# Altium schematic symbol library TTL_Library.SchLib: 480 symbols (part 2 of 4)
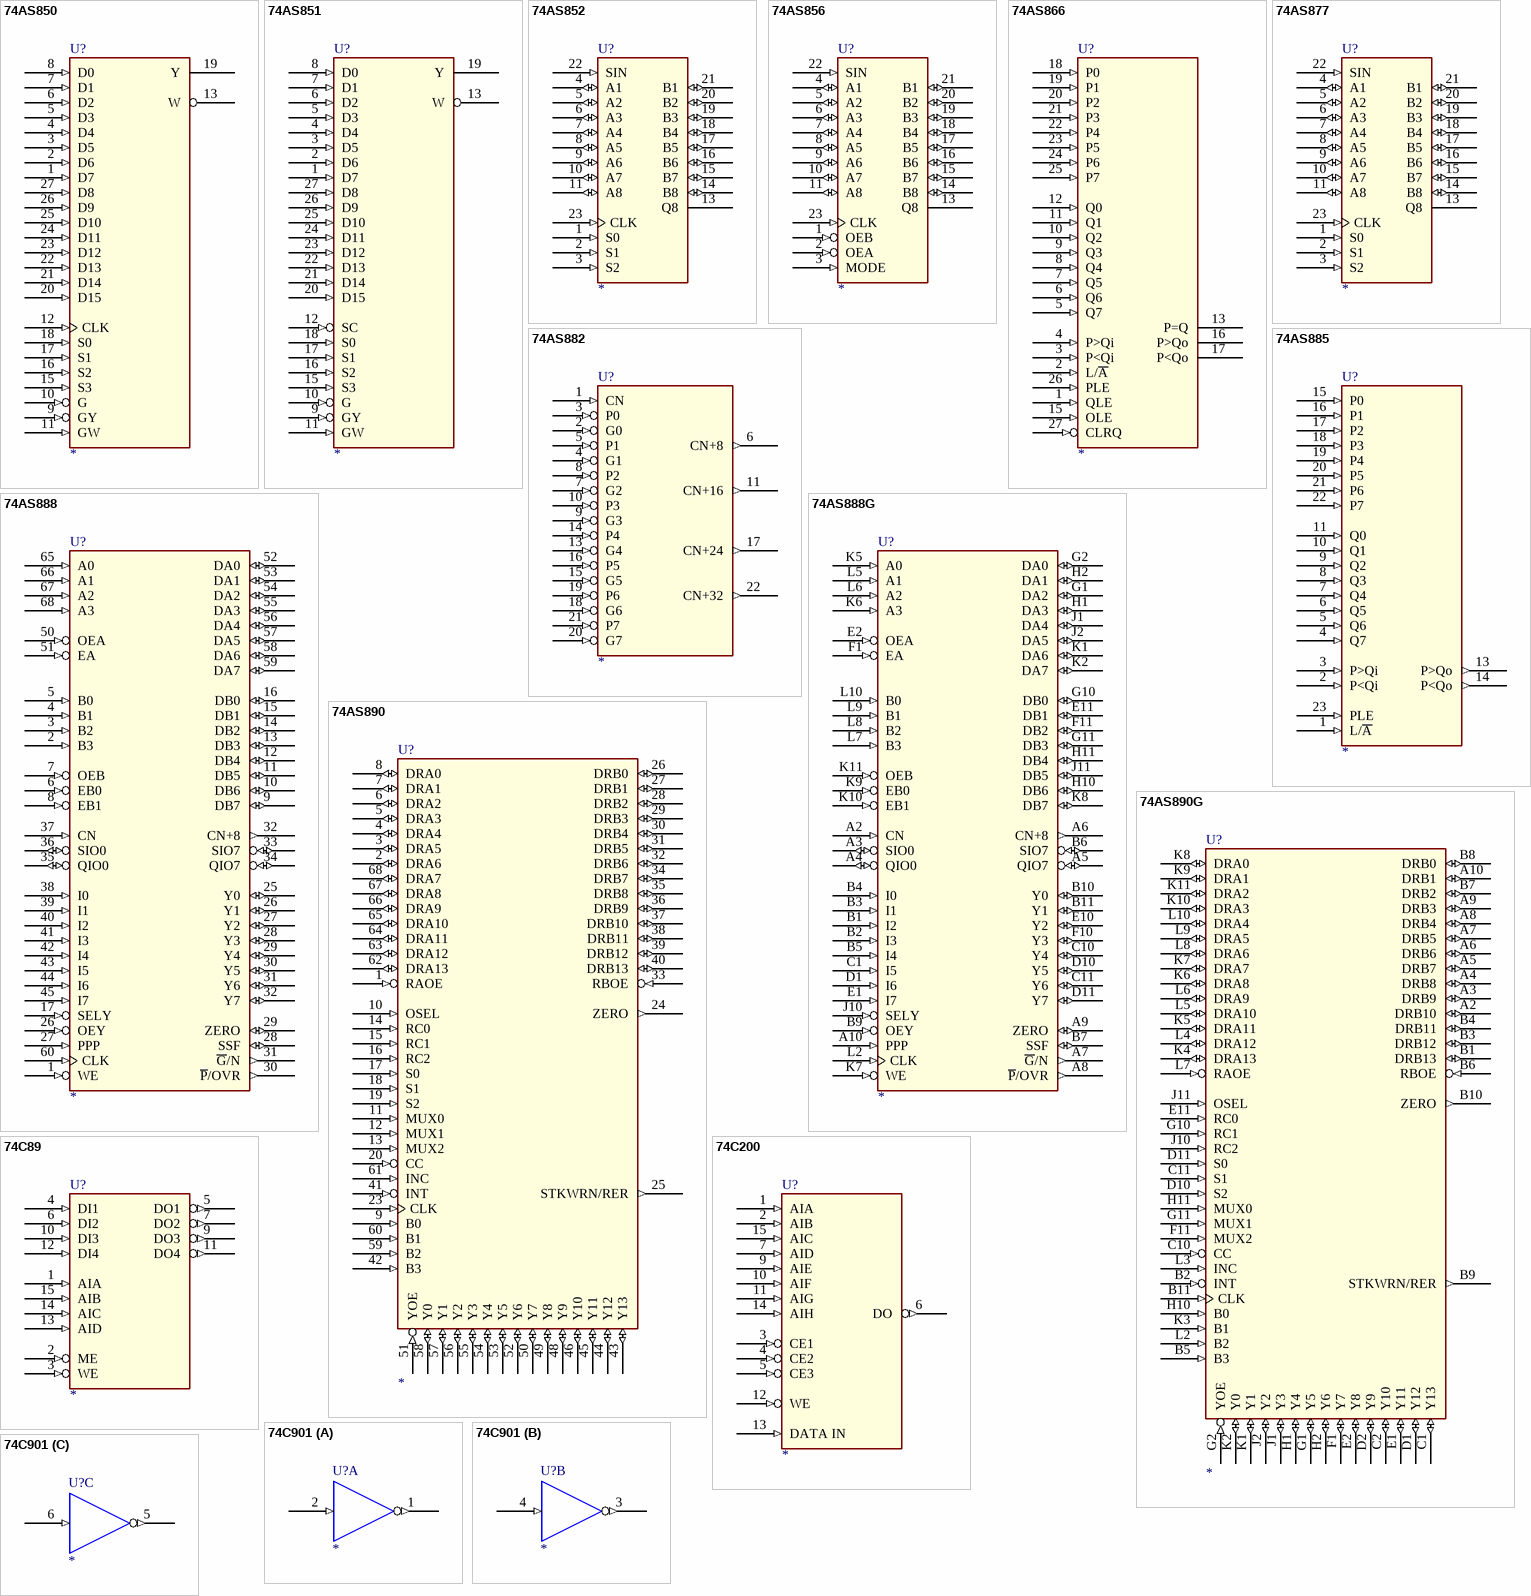
[diagram p26: symbols 74AS850 to 74C901]

## 74AS885
designator U?
pins: 1 L/~{A} (in), 2 P<Qi (in), 3 P>Qi (in), 4 Q7 (in), 5 Q6 (in), 6 Q5 (in), 7 Q4 (in), 8 Q3 (in), 9 Q2 (in), 10 Q1 (in), 11 Q0 (in), 12 GND (power) hidden to GND, 13 P>Qo (out), 14 P<Qo (out), 15 P0 (in), 16 P1 (in), 17 P2 (in), 18 P3 (in), 19 P4 (in), 20 P5 (in), 21 P6 (in), 22 P7 (in), 23 PLE (in), 24 VCC (power) hidden to VCC

## 74AS888
designator U?
pins: 1 WE (in), 2 B3 (in), 3 B2 (in), 4 B1 (in), 5 B0 (in), 6 EB0 (in), 7 OEB (in), 8 EB1 (in), 9 DB7 (io), 10 DB6 (io), 11 DB5 (io), 12 DB4 (io), 13 DB3 (io), 14 DB2 (io), 15 DB1 (io), 16 DB0 (io), 17 SELY (in), 25 Y0 (io), 26 OEY (in), 26 Y1 (io), 27 PPP (in), 27 Y2 (io), 28 Y3 (io), 28 SSF (io), 29 Y4 (io), 29 ZERO (io), 30 Y5 (io), 30 ~{P}/OVR (out), 31 Y6 (io), 31 ~{G}/N (out), 32 CN+8 (out), 32 Y7 (io), 33 SIO7 (io), 34 QIO7 (io), 35 QIO0 (io), 36 SIO0 (io), 37 CN (in), 38 I0 (in), 39 I1 (in), 40 I2 (in), 41 I3 (in), 42 I4 (in), 43 I5 (in), 43 GND (power) hidden to GND, 44 I6 (in), 45 I7 (in), 47 GND (power) hidden to GND, 48 VCC (power) hidden to VCC, 49 VCC (power) hidden to VCC, 50 OEA (in), 51 EA (in), 52 DA0 (io), 53 DA1 (io), 54 DA2 (io), 55 DA3 (io), 56 DA4 (io), 57 DA5 (io), 58 DA6 (io), 59 DA7 (io), 60 CLK (in), 65 A0 (in), 66 A1 (in), 67 A2 (in), 68 A3 (in)

## 74AS888G
designator U?
pins: A2 CN (in), A3 SIO0 (io), A4 QIO0 (io), A5 QIO7 (io), A6 CN+8 (out), A7 ~{G}/N (out), A8 ~{P}/OVR (out), A9 ZERO (io), A10 PPP (in), B1 I2 (in), B2 I3 (in), B3 I1 (in), B4 I0 (in), B5 I4 (in), B6 SIO7 (io), B7 SSF (io), B9 OEY (in), B10 Y0 (io), B11 Y1 (io), C1 I5 (in), C2 VCC (power) hidden to VCC, C10 Y4 (io), C11 Y6 (io), D1 I6 (in), D2 VCC (power) hidden to VCC, D10 Y5 (io), D11 Y7 (io), E1 I7 (in), E2 OEA (in), E10 Y2 (io), E11 DB1 (io), F1 EA (in), F2 GND (power) hidden to GND, F10 Y3 (io), F11 DB2 (io), G1 DA2 (io), G2 DA0 (io), G10 DB0 (io), G11 DB3 (io), H1 DA3 (io), H2 DA1 (io), H10 DB6 (io), H11 DB4 (io), J1 DA4 (io), J2 DA5 (io), J10 SELY (in), J11 DB5 (io), K1 DA6 (io), K2 DA7 (io), K5 A0 (in), K6 A3 (in), K7 WE (in), K8 DB7 (io), K9 EB0 (in), K10 EB1 (in), K11 OEB (in), L2 CLK (in), L5 A1 (in), L6 A2 (in), L7 B3 (in), L8 B2 (in), L9 B1 (in), L10 B0 (in)

## 74AS890
designator U?
pins: 1 RAOE (in), 2 DRA6 (io), 3 DRA5 (io), 4 DRA4 (io), 5 DRA3 (io), 6 DRA2 (io), 7 DRA1 (io), 8 DRA0 (io), 9 B0 (in), 10 OSEL (in), 11 MUX0 (in), 12 MUX1 (in), 13 MUX2 (in), 14 RC0 (in), 15 RC1 (in), 16 RC2 (in), 17 S0 (in), 18 S1 (in), 19 S2 (in), 20 CC (in), 21 VCC (power) hidden to VCC, 22 VCC (power) hidden to VCC, 23 CLK (in), 24 ZERO (out), 25 STKWRN/RER (out), 26 DRB0 (io), 27 DRB1 (io), 28 DRB2 (io), 29 DRB3 (io), 30 DRB4 (io), 31 DRB5 (io), 32 DRB6 (io), 33 RBOE (in), 34 DRB7 (io), 35 DRB8 (io), 36 DRB9 (io), 37 DRB10 (io), 38 DRB11 (io), 39 DRB12 (io), 40 DRB13 (io), 41 INT (in), 42 B3 (in), 43 Y13 (io), 44 Y12 (io), 45 Y11 (io), 46 Y10 (io), 47 GND (power) hidden to GND, 48 Y9 (io), 49 Y8 (io), 50 Y7 (io), 51 YOE (in), 52 Y6 (io), 53 Y5 (io), 54 Y4 (io), 55 Y3 (io), 56 Y2 (io), 57 Y1 (io), 58 Y0 (io), 59 B2 (in), 60 B1 (in), 61 INC (in), 62 DRA13 (io), 63 DRA12 (io), 64 DRA11 (io), 65 DRA10 (io), 66 DRA9 (io), 67 DRA8 (io), 68 DRA7 (io)

## 74AS890G
designator U?
pins: A2 DRB10 (io), A3 DRB9 (io), A4 DRB8 (io), A5 DRB7 (io), A6 DRB6 (io), A7 DRB5 (io), A8 DRB4 (io), A9 DRB3 (io), A10 DRB1 (io), B1 DRB13 (io), B2 INT (in), B3 DRB12 (io), B4 DRB11 (io), B5 B3 (in), B6 RBOE (in), B7 DRB2 (io), B8 DRB0 (io), B9 STKWRN/RER (out), B10 ZERO (out), B11 CLK (in), C1 Y13 (io), C2 Y10 (io), C10 CC (in), C11 S1 (in), D1 Y12 (io), D2 Y9 (io), D10 S2 (in), D11 S0 (in), E1 Y11 (io), E2 Y8 (io), E10 VCC (power) hidden to VCC, E11 RC0 (in), F1 Y7 (io), F2 GND (power) hidden to GND, F10 VCC (power) hidden to VCC, F11 MUX2 (in), G1 Y5 (io), G2 YOE (in), G10 RC1 (in), G11 MUX1 (in), H1 Y4 (io), H2 Y6 (io), H10 B0 (in), H11 MUX0 (in), J1 Y3 (io), J2 Y2 (io), J10 RC2 (in), J11 OSEL (in), K1 Y1 (io), K2 Y0 (io), K3 B1 (in), K4 DRA13 (io), K5 DRA11 (io), K6 DRA8 (io), K7 DRA7 (io), K8 DRA0 (io), K9 DRA1 (io), K10 DRA3 (io), K11 DRA2 (io), L2 B2 (in), L3 INC (in), L4 DRA12 (io), L5 DRA10 (io), L6 DRA9 (io), L7 RAOE (in), L8 DRA6 (io), L9 DRA5 (io), L10 DRA4 (io)

## 74C89
designator U?
pins: 1 AIA (in), 2 ME (in), 3 WE (in), 4 DI1 (in), 5 DO1 (out), 6 DI2 (in), 7 DO2 (out), 8 GND (power) hidden to GND, 9 DO3 (out), 10 DI3 (in), 11 DO4 (out), 12 DI4 (in), 13 AID (in), 14 AIC (in), 15 AIB (in), 16 VCC (power) hidden to VCC

## 74C200
designator U?
pins: 1 AIA (in), 2 AIB (in), 3 CE1 (in), 4 CE2 (in), 5 CE3 (in), 6 DO (out), 7 AID (in), 8 GND (power) hidden to GND, 9 AIE (in), 10 AIF (in), 11 AIG (in), 12 WE (in), 13 DATA IN (in), 14 AIH (in), 15 AIC (in), 16 VCC (power) hidden to VCC

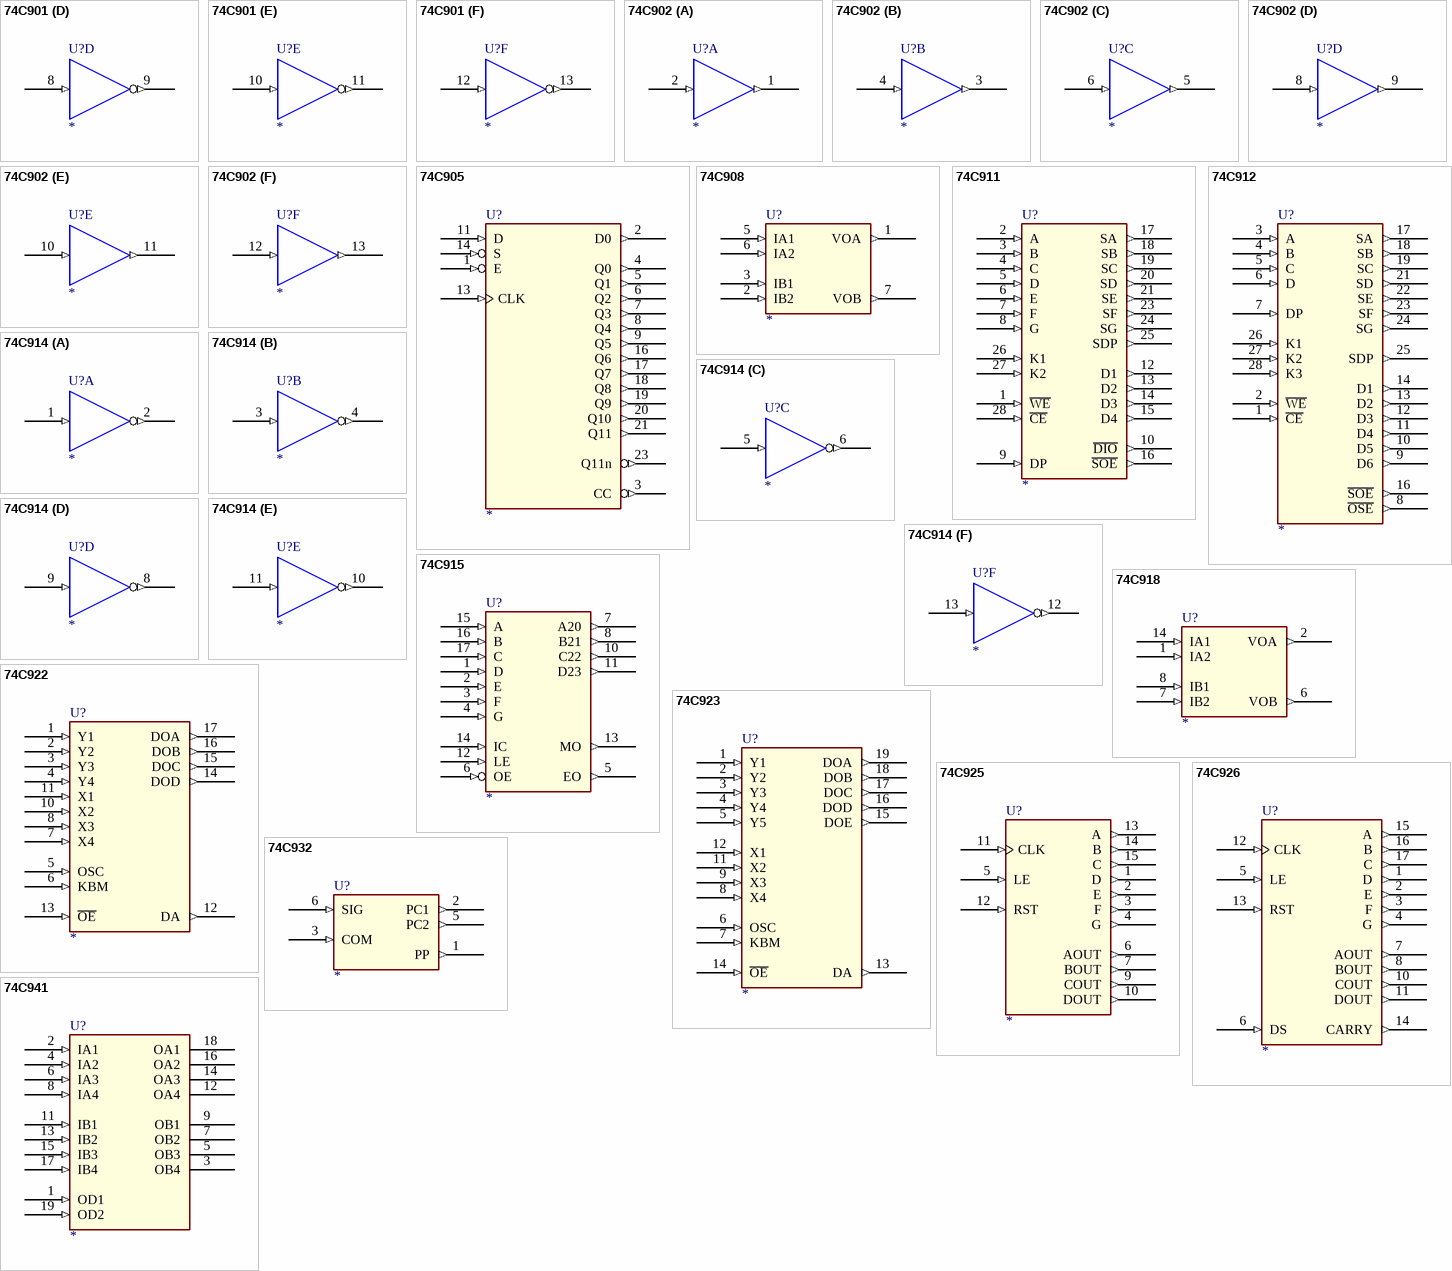
[diagram p8: symbols 74C901 to 74C941]

## 74C901
designator U?
part A pins: 1 O (out), 2 I (in), 7 GND (power) hidden to GND, 14 VCC (power) hidden to VCC
part B pins: 3 O (out), 4 I (in), 7 GND (power) hidden to GND, 14 VCC (power) hidden to VCC
part C pins: 5 O (out), 6 I (in), 7 GND (power) hidden to GND, 14 VCC (power) hidden to VCC
part D pins: 7 GND (power) hidden to GND, 8 I (in), 9 O (out), 14 VCC (power) hidden to VCC
part E pins: 7 GND (power) hidden to GND, 10 I (in), 11 O (out), 14 VCC (power) hidden to VCC
part F pins: 7 GND (power) hidden to GND, 12 I (in), 13 O (out), 14 VCC (power) hidden to VCC
1 alternate drawing of the same symbol

## 74C902
designator U?
part A pins: 1 O (out), 2 I (in), 7 GND (power) hidden to GND, 14 VCC (power) hidden to VCC
part B pins: 3 O (out), 4 I (in), 7 GND (power) hidden to GND, 14 VCC (power) hidden to VCC
part C pins: 5 O (out), 6 I (in), 7 GND (power) hidden to GND, 14 VCC (power) hidden to VCC
part D pins: 7 GND (power) hidden to GND, 8 I (in), 9 O (out), 14 VCC (power) hidden to VCC
part E pins: 7 GND (power) hidden to GND, 10 I (in), 11 O (out), 14 VCC (power) hidden to VCC
part F pins: 7 GND (power) hidden to GND, 12 I (in), 13 O (out), 14 VCC (power) hidden to VCC

## 74C905
designator U?
pins: 1 E (in), 2 D0 (out), 3 CC (out), 4 Q0 (out), 5 Q1 (out), 6 Q2 (out), 7 Q3 (out), 8 Q4 (out), 9 Q5 (out), 11 D (in), 12 GND (power) hidden to GND, 13 CLK (in), 14 S (in), 16 Q6 (out), 17 Q7 (out), 18 Q8 (out), 19 Q9 (out), 20 Q10 (out), 21 Q11 (out), 23 Q11n (out), 24 VCC (power) hidden to VCC

## 74C908
designator U?
pins: 1 VOA (out), 2 IB2 (in), 3 IB1 (in), 4 GND (power) hidden to GND, 5 IA1 (in), 6 IA2 (in), 7 VOB (out), 8 VCC (power) hidden to VCC

## 74C911
designator U?
pins: 1 ~{WE} (in), 2 A (in), 3 B (in), 4 C (in), 5 D (in), 6 E (in), 7 F (in), 8 G (in), 9 DP (in), 10 ~{DIO} (out), 11 GND (power) hidden to GND, 12 D1 (out), 13 D2 (out), 14 D3 (out), 15 D4 (out), 16 ~{SOE} (out), 17 SA (out), 18 SB (out), 19 SC (out), 20 SD (out), 21 SE (out), 22 VCC (power) hidden to VCC, 23 SF (out), 24 SG (out), 25 SDP (out), 26 K1 (in), 27 K2 (in), 28 ~{CE} (in)

## 74C912
designator U?
pins: 1 ~{CE} (in), 2 ~{WE} (in), 3 A (in), 4 B (in), 5 C (in), 6 D (in), 7 DP (in), 8 ~{OSE} (out), 9 D6 (out), 10 D5 (out), 11 D4 (out), 12 D3 (out), 13 D2 (out), 14 D1 (out), 15 GND (power) hidden to GND, 16 ~{SOE} (out), 17 SA (out), 18 SB (out), 19 SC (out), 20 VCC (power) hidden to VCC, 21 SD (out), 22 SE (out), 23 SF (out), 24 SG (out), 25 SDP (out), 26 K1 (in), 27 K2 (in), 28 K3 (in)

## 74C914
designator U?
part A pins: 1 I (in), 2 O (out), 7 GND (power) hidden to GND, 14 VCC (power) hidden to VCC
part B pins: 3 I (in), 4 O (out), 7 GND (power) hidden to GND, 14 VCC (power) hidden to VCC
part C pins: 5 I (in), 6 O (out), 7 GND (power) hidden to GND, 14 VCC (power) hidden to VCC
part D pins: 7 GND (power) hidden to GND, 8 O (out), 9 I (in), 14 VCC (power) hidden to VCC
part E pins: 7 GND (power) hidden to GND, 10 O (out), 11 I (in), 14 VCC (power) hidden to VCC
part F pins: 7 GND (power) hidden to GND, 12 O (out), 13 I (in), 14 VCC (power) hidden to VCC
1 alternate drawing of the same symbol

## 74C915
designator U?
pins: 1 D (in), 2 E (in), 3 F (in), 4 G (in), 5 EO (out), 6 OE (in), 7 A20 (out), 8 B21 (out), 9 GND (power) hidden to GND, 10 C22 (out), 11 D23 (out), 12 LE (in), 13 MO (out), 14 IC (in), 15 A (in), 16 B (in), 17 C (in), 18 VCC (power) hidden to VCC

## 74C918
designator U?
pins: 1 IA2 (in), 2 VOA (out), 6 VOB (out), 7 IB2 (in), 8 IB1 (in), 9 GND (power) hidden to GND, 12 VCC (power) hidden to VCC, 14 IA1 (in)

## 74C922
designator U?
pins: 1 Y1 (in), 2 Y2 (in), 3 Y3 (in), 4 Y4 (in), 5 OSC (in), 6 KBM (in), 7 X4 (in), 8 X3 (in), 9 GND (power) hidden to GND, 10 X2 (in), 11 X1 (in), 12 DA (out), 13 ~{OE} (in), 14 DOD (out), 15 DOC (out), 16 DOB (out), 17 DOA (out), 18 VCC (power) hidden to VCC

## 74C923
designator U?
pins: 1 Y1 (in), 2 Y2 (in), 3 Y3 (in), 4 Y4 (in), 5 Y5 (in), 6 OSC (in), 7 KBM (in), 8 X4 (in), 9 X3 (in), 10 GND (power) hidden to GND, 11 X2 (in), 12 X1 (in), 13 DA (out), 14 ~{OE} (in), 15 DOE (out), 16 DOD (out), 17 DOC (out), 18 DOB (out), 19 DOA (out), 20 VCC (power) hidden to VCC

## 74C925
designator U?
pins: 1 D (out), 2 E (out), 3 F (out), 4 G (out), 5 LE (in), 6 AOUT (out), 7 BOUT (out), 8 GND (power) hidden to GND, 9 COUT (out), 10 DOUT (out), 11 CLK (in), 12 RST (in), 13 A (out), 14 B (out), 15 C (out), 16 VCC (power) hidden to VCC

## 74C926
designator U?
pins: 1 D (out), 2 E (out), 3 F (out), 4 G (out), 5 LE (in), 6 DS (in), 7 AOUT (out), 8 BOUT (out), 9 GND (power) hidden to GND, 10 COUT (out), 11 DOUT (out), 12 CLK (in), 13 RST (in), 14 CARRY (out), 15 A (out), 16 B (out), 17 C (out), 18 VCC (power) hidden to VCC

## 74C932
designator U?
pins: 1 PP (out), 2 PC1 (out), 3 COM (in), 4 GND (power) hidden to GND, 5 PC2 (out), 6 SIG (in), 8 VCC (power) hidden to VCC

## 74C941
designator U?
pins: 1 OD1 (in), 2 IA1 (in), 3 OB4 (hiz), 4 IA2 (in), 5 OB3 (hiz), 6 IA3 (in), 7 OB2 (hiz), 8 IA4 (in), 9 OB1 (hiz), 10 GND (power) hidden to GND, 11 IB1 (in), 12 OA4 (hiz), 13 IB2 (in), 14 OA3 (hiz), 15 IB3 (in), 16 OA2 (hiz), 17 IB4 (in), 18 OA1 (hiz), 19 OD2 (in), 20 VCC (power) hidden to VCC

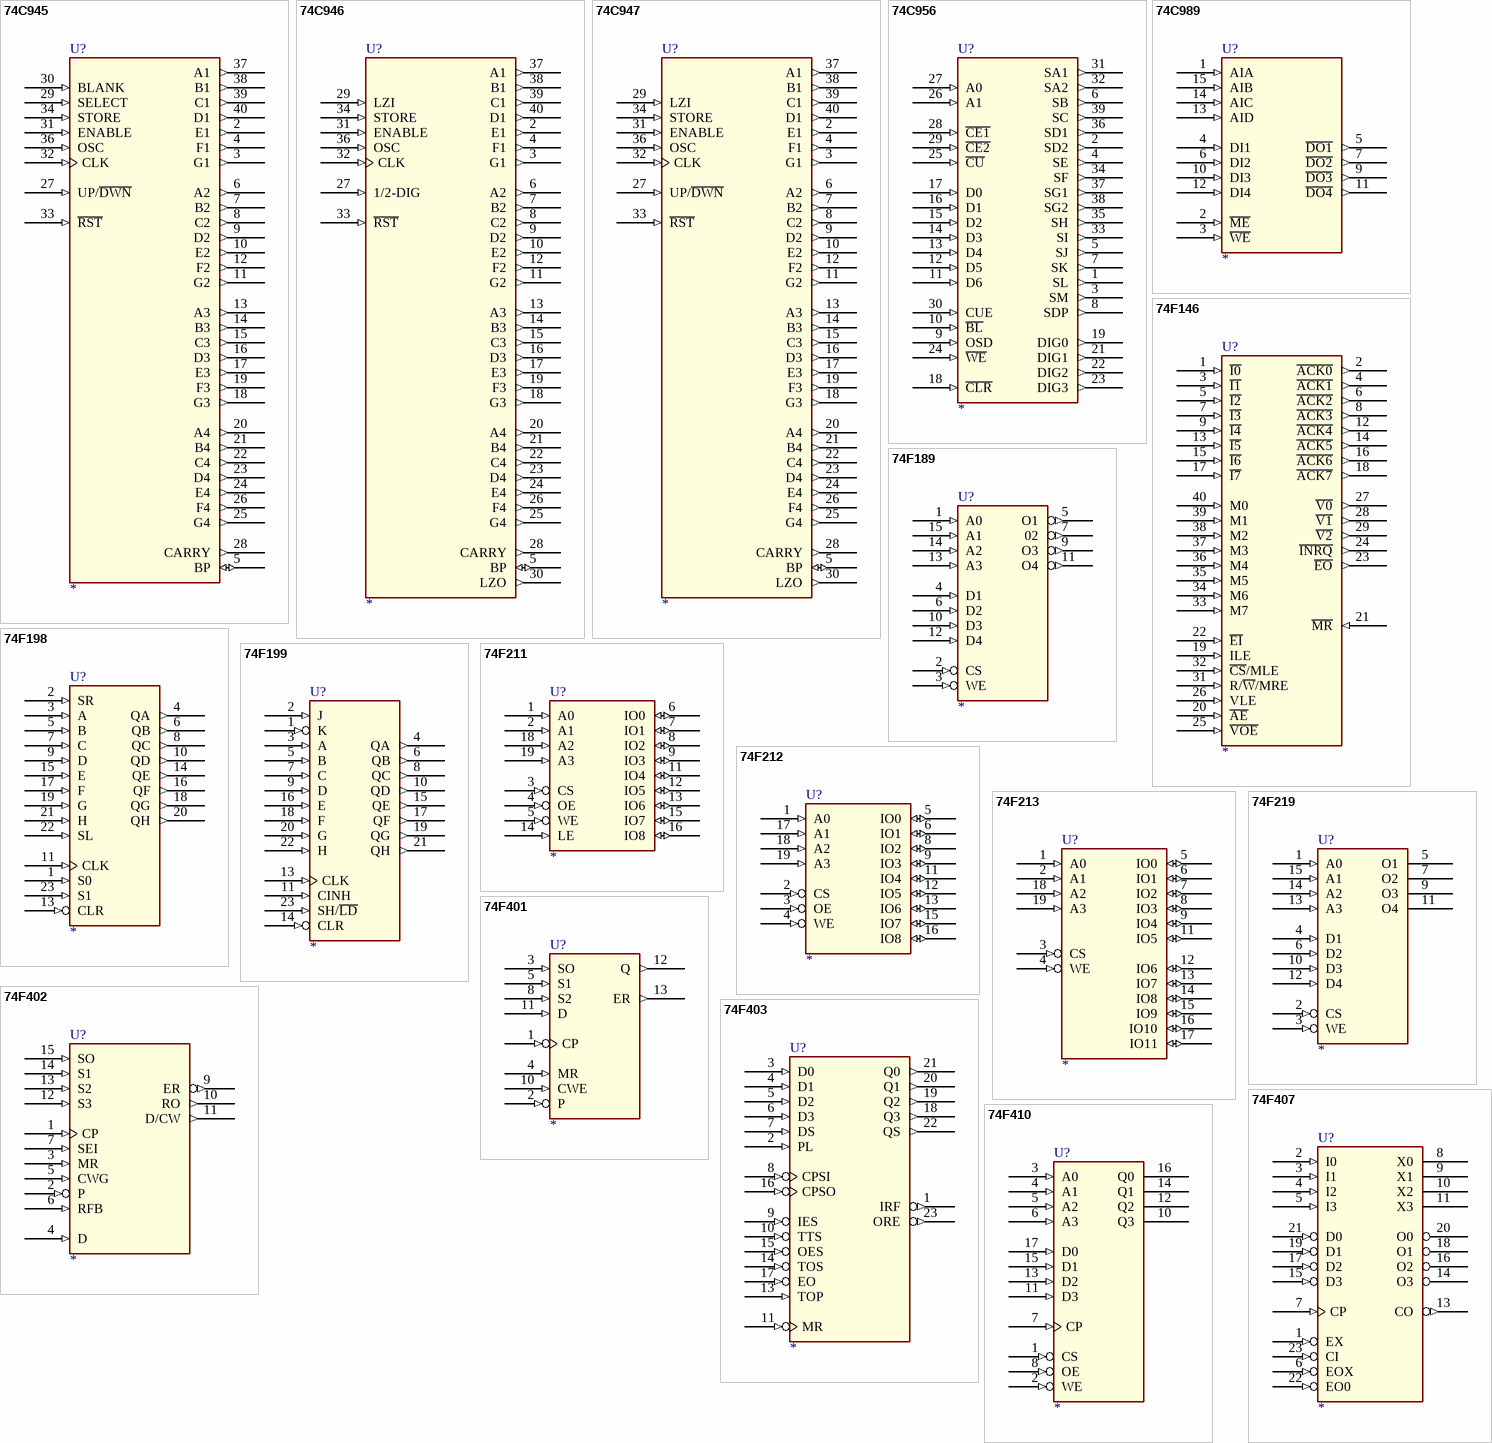
[diagram p9: symbols 74C945 to 74F410]

## 74C945
designator U?
pins: 1 VCC (power) hidden to VCC, 2 E1 (out), 3 G1 (out), 4 F1 (out), 5 BP (io), 6 A2 (out), 7 B2 (out), 8 C2 (out), 9 D2 (out), 10 E2 (out), 11 G2 (out), 12 F2 (out), 13 A3 (out), 14 B3 (out), 15 C3 (out), 16 D3 (out), 17 E3 (out), 18 G3 (out), 19 F3 (out), 20 A4 (out), 21 B4 (out), 22 C4 (out), 23 D4 (out), 24 E4 (out), 25 G4 (out), 26 F4 (out), 27 UP/~{DWN} (in), 28 CARRY (out), 29 SELECT (in), 30 BLANK (in), 31 ENABLE (in), 32 CLK (in), 33 ~{RST} (in), 34 STORE (in), 35 GND (power) hidden to GND, 36 OSC (in), 37 A1 (out), 38 B1 (out), 39 C1 (out), 40 D1 (out)

## 74C946
designator U?
pins: 1 VCC (power) hidden to VCC, 2 E1 (out), 3 G1 (out), 4 F1 (out), 5 BP (io), 6 A2 (out), 7 B2 (out), 8 C2 (out), 9 D2 (out), 10 E2 (out), 11 G2 (out), 12 F2 (out), 13 A3 (out), 14 B3 (out), 15 C3 (out), 16 D3 (out), 17 E3 (out), 18 G3 (out), 19 F3 (out), 20 A4 (out), 21 B4 (out), 22 C4 (out), 23 D4 (out), 24 E4 (out), 25 G4 (out), 26 F4 (out), 27 1/2-DIG (in), 28 CARRY (out), 29 LZI (in), 30 LZO (out), 31 ENABLE (in), 32 CLK (in), 33 ~{RST} (in), 34 STORE (in), 35 GND (power) hidden to GND, 36 OSC (in), 37 A1 (out), 38 B1 (out), 39 C1 (out), 40 D1 (out)

## 74C947
designator U?
pins: 1 VCC (power) hidden to VCC, 2 E1 (out), 3 G1 (out), 4 F1 (out), 5 BP (io), 6 A2 (out), 7 B2 (out), 8 C2 (out), 9 D2 (out), 10 E2 (out), 11 G2 (out), 12 F2 (out), 13 A3 (out), 14 B3 (out), 15 C3 (out), 16 D3 (out), 17 E3 (out), 18 G3 (out), 19 F3 (out), 20 A4 (out), 21 B4 (out), 22 C4 (out), 23 D4 (out), 24 E4 (out), 25 G4 (out), 26 F4 (out), 27 UP/~{DWN} (in), 28 CARRY (out), 29 LZI (in), 30 LZO (out), 31 ENABLE (in), 32 CLK (in), 33 ~{RST} (in), 34 STORE (in), 35 GND (power) hidden to GND, 36 OSC (in), 37 A1 (out), 38 B1 (out), 39 C1 (out), 40 D1 (out)

## 74C956
designator U?
pins: 1 SL (out), 2 SD2 (out), 3 SM (out), 4 SE (out), 5 SJ (out), 6 SB (out), 7 SK (out), 8 SDP (out), 9 OSD (in), 10 ~{BL} (in), 11 D6 (in), 12 D5 (in), 13 D4 (in), 14 D3 (in), 15 D2 (in), 16 D1 (in), 17 D0 (in), 18 ~{CLR} (in), 19 DIG0 (out), 20 VSS (power) hidden to VSS, 21 DIG1 (out), 22 DIG2 (out), 23 DIG3 (out), 24 ~{WE} (in), 25 ~{CU} (in), 26 A1 (in), 27 A0 (in), 28 ~{CE1} (in), 29 ~{CE2} (in), 30 CUE (in), 31 SA1 (out), 32 SA2 (out), 33 SI (out), 34 SF (out), 35 SH (out), 36 SD1 (out), 37 SG1 (out), 38 SG2 (out), 39 SC (out), 40 VCC (power) hidden to VCC

## 74C989
designator U?
pins: 1 AIA (in), 2 ~{ME} (in), 3 ~{WE} (in), 4 DI1 (in), 5 ~{DO1} (out), 6 DI2 (in), 7 ~{DO2} (out), 8 GND (power) hidden to GND, 9 ~{DO3} (out), 10 DI3 (in), 11 ~{DO4} (out), 12 DI4 (in), 13 AID (in), 14 AIC (in), 15 AIB (in), 16 VCC (power) hidden to VCC

## 74F146
designator U?
pins: 1 ~{I0} (in), 2 ~{ACK0} (out), 3 ~{I1} (in), 4 ~{ACK1} (out), 5 ~{I2} (in), 6 ~{ACK2} (out), 7 ~{I3} (in), 8 ~{ACK3} (out), 9 ~{I4} (in), 10 VCC (power) hidden to VCC, 11 GND (power) hidden to GND, 12 ~{ACK4} (out), 13 ~{I5} (in), 14 ~{ACK5} (out), 15 ~{I6} (in), 16 ~{ACK6} (out), 17 ~{I7} (in), 18 ~{ACK7} (out), 19 ILE (in), 20 ~{AE} (in), 21 ~{MR} (in), 22 ~{EI} (in), 23 ~{EO} (out), 24 ~{INRQ} (out), 25 ~{VOE} (in), 26 VLE (in), 27 ~{V0} (out), 28 ~{V1} (out), 29 ~{V2} (out), 30 GND (power) hidden to GND, 31 R/~{W}/MRE (in), 32 ~{CS}/MLE (in), 33 M7 (in), 34 M6 (in), 35 M5 (in), 36 M4 (in), 37 M3 (in), 38 M2 (in), 39 M1 (in), 40 M0 (in)

## 74F189
designator U?
pins: 1 A0 (in), 2 CS (in), 3 WE (in), 4 D1 (in), 5 O1 (out), 6 D2 (in), 7 02 (out), 8 GND (power) hidden to GND, 9 O3 (out), 10 D3 (in), 11 O4 (out), 12 D4 (in), 13 A3 (in), 14 A2 (in), 15 A1 (in), 16 VCC (power) hidden to VCC

## 74F198
designator U?
pins: 1 S0 (in), 2 SR (in), 3 A (in), 4 QA (out), 5 B (in), 6 QB (out), 7 C (in), 8 QC (out), 9 D (in), 10 QD (out), 11 CLK (in), 12 GND (power) hidden to GND, 13 CLR (in), 14 QE (out), 15 E (in), 16 QF (out), 17 F (in), 18 QG (out), 19 G (in), 20 QH (out), 21 H (in), 22 SL (in), 23 S1 (in), 24 VCC (power) hidden to VCC

## 74F199
designator U?
pins: 1 K (in), 2 J (in), 3 A (in), 4 QA (out), 5 B (in), 6 QB (out), 7 C (in), 8 QC (out), 9 D (in), 10 QD (out), 11 CINH (in), 12 GND (power) hidden to GND, 13 CLK (in), 14 CLR (in), 15 QE (out), 16 E (in), 17 QF (out), 18 F (in), 19 QG (out), 20 G (in), 21 QH (out), 22 H (in), 23 SH/~{LD} (in), 24 VCC (power) hidden to VCC

## 74F211
designator U?
pins: 1 A0 (in), 2 A1 (in), 3 CS (in), 4 OE (in), 5 WE (in), 6 IO0 (io), 7 IO1 (io), 8 IO2 (io), 9 IO3 (io), 10 GND (power) hidden to GND, 11 IO4 (io), 12 IO5 (io), 13 IO6 (io), 14 LE (in), 15 IO7 (io), 16 IO8 (io), 18 A2 (in), 19 A3 (in), 20 VCC (power) hidden to VCC

## 74F212
designator U?
pins: 1 A0 (in), 2 CS (in), 3 OE (in), 4 WE (in), 5 IO0 (io), 6 IO1 (io), 8 IO2 (io), 9 IO3 (io), 10 GND (power) hidden to GND, 11 IO4 (io), 12 IO5 (io), 13 IO6 (io), 15 IO7 (io), 16 IO8 (io), 17 A1 (in), 18 A2 (in), 19 A3 (in), 20 VCC (power) hidden to VCC

## 74F213
designator U?
pins: 1 A0 (in), 2 A1 (in), 3 CS (in), 4 WE (in), 5 IO0 (io), 6 IO1 (io), 7 IO2 (io), 8 IO3 (io), 9 IO4 (io), 10 GND (power) hidden to GND, 11 IO5 (io), 12 IO6 (io), 13 IO7 (io), 14 IO8 (io), 15 IO9 (io), 16 IO10 (io), 17 IO11 (io), 18 A2 (in), 19 A3 (in), 20 VCC (power) hidden to VCC

## 74F219
designator U?
pins: 1 A0 (in), 2 CS (in), 3 WE (in), 4 D1 (in), 5 O1 (hiz), 6 D2 (in), 7 O2 (hiz), 8 GND (power) hidden to GND, 9 O3 (hiz), 10 D3 (in), 11 O4 (hiz), 12 D4 (in), 13 A3 (in), 14 A2 (in), 15 A1 (in), 16 VCC (power) hidden to VCC

## 74F401
designator U?
pins: 1 CP (in), 2 P (in), 3 SO (in), 4 MR (in), 5 S1 (in), 7 GND (power) hidden to GND, 8 S2 (in), 10 CWE (in), 11 D (in), 12 Q (out), 13 ER (out), 14 VCC (power) hidden to VCC

## 74F402
designator U?
pins: 1 CP (in), 2 P (in), 3 MR (in), 4 D (in), 5 CWG (in), 6 RFB (in), 7 SEI (in), 8 GND (power) hidden to GND, 9 ER (out), 10 RO (out), 11 D/CW (out), 12 S3 (in), 13 S2 (in), 14 S1 (in), 15 SO (in), 16 VCC (power) hidden to VCC

## 74F403
designator U?
pins: 1 IRF (out), 2 PL (in), 3 D0 (in), 4 D1 (in), 5 D2 (in), 6 D3 (in), 7 DS (in), 8 CPSI (in), 9 IES (in), 10 TTS (in), 11 MR (in), 12 GND (power) hidden to GND, 13 TOP (in), 14 TOS (in), 15 OES (in), 16 CPSO (in), 17 EO (in), 18 Q3 (out), 19 Q2 (out), 20 Q1 (out), 21 Q0 (out), 22 QS (out), 23 ORE (out), 24 VCC (power) hidden to VCC

## 74F407
designator U?
pins: 1 EX (in), 2 I0 (in), 3 I1 (in), 4 I2 (in), 5 I3 (in), 6 EOX (in), 7 CP (in), 8 X0 (hiz), 9 X1 (hiz), 10 X2 (hiz), 11 X3 (hiz), 12 GND (power) hidden to GND, 13 CO (out), 14 O3 (hiz), 15 D3 (in), 16 O2 (hiz), 17 D2 (in), 18 O1 (hiz), 19 D1 (in), 20 O0 (hiz), 21 D0 (in), 22 EO0 (in), 23 CI (in), 24 VCC (power) hidden to VCC

## 74F410
designator U?
pins: 1 CS (in), 2 WE (in), 3 A0 (in), 4 A1 (in), 5 A2 (in), 6 A3 (in), 7 CP (in), 8 OE (in), 9 GND (power) hidden to GND, 10 Q3 (hiz), 11 D3 (in), 12 Q2 (hiz), 13 D2 (in), 14 Q1 (hiz), 15 D1 (in), 16 Q0 (hiz), 17 D0 (in), 18 VCC (power) hidden to VCC

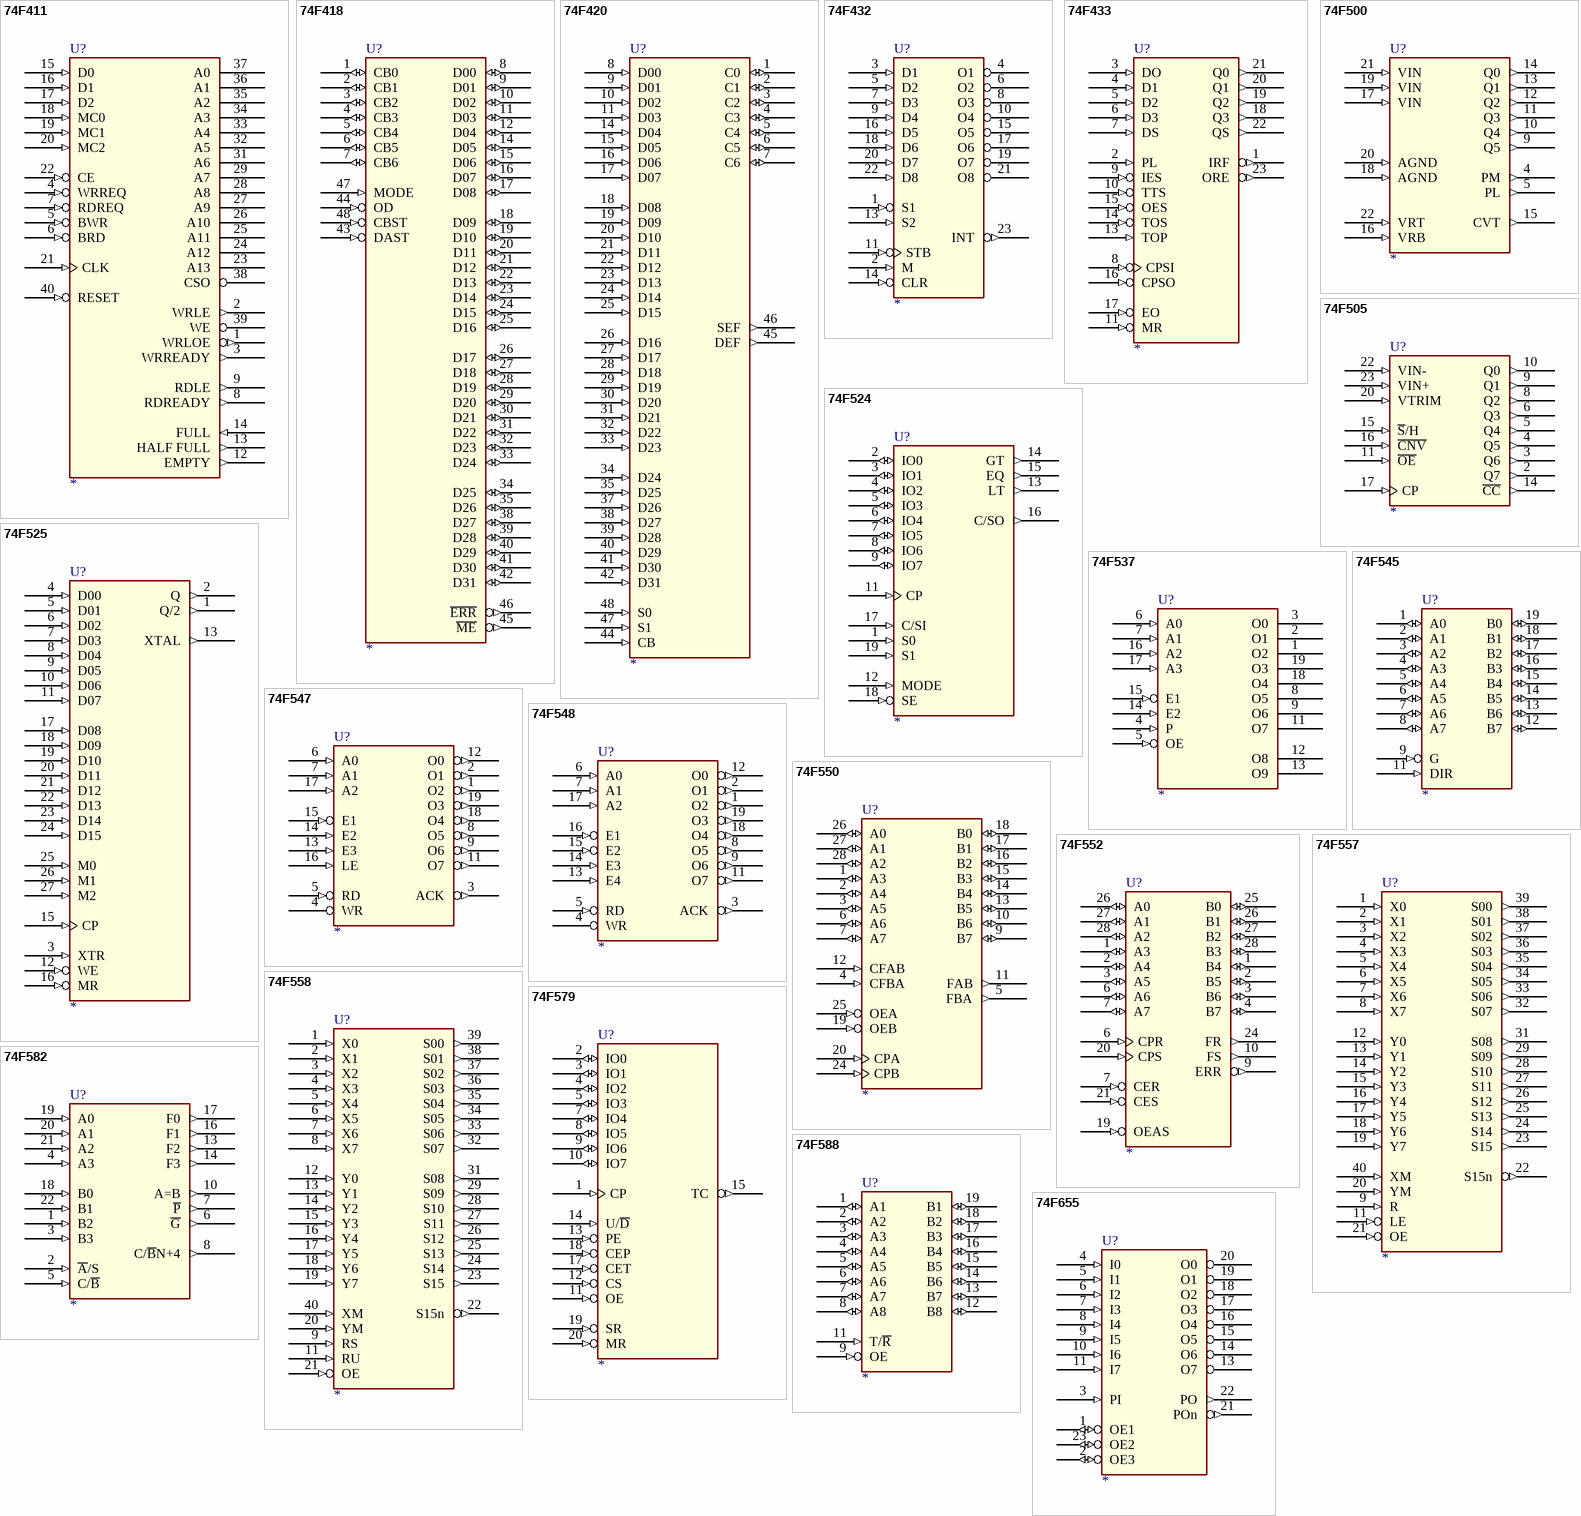
[diagram p10: symbols 74F411 to 74F655]

## 74F411
designator U?
pins: 1 WRLOE (out), 2 WRLE (out), 3 WRREADY (out), 4 WRREQ (in), 5 BWR (in), 6 BRD (in), 7 RDREQ (in), 8 RDREADY (out), 9 RDLE (out), 10 VCC (power) hidden to VCC, 11 GND (power) hidden to GND, 12 EMPTY (out), 13 HALF FULL (out), 14 FULL (in), 15 D0 (in), 16 D1 (in), 17 D2 (in), 18 MC0 (in), 19 MC1 (in), 20 MC2 (in), 21 CLK (in), 22 CE (in), 23 A13 (hiz), 24 A12 (hiz), 25 A11 (hiz), 26 A10 (hiz), 27 A9 (hiz), 28 A8 (hiz), 29 A7 (hiz), 30 GND (power) hidden to GND, 31 A6 (hiz), 32 A5 (hiz), 33 A4 (hiz), 34 A3 (hiz), 35 A2 (hiz), 36 A1 (hiz), 37 A0 (hiz), 38 CSO (hiz), 39 WE (hiz), 40 RESET (in)

## 74F418
designator U?
pins: 1 CB0 (io), 2 CB1 (io), 3 CB2 (io), 4 CB3 (io), 5 CB4 (io), 6 CB5 (io), 7 CB6 (io), 8 D00 (io), 9 D01 (io), 10 D02 (io), 11 D03 (io), 12 D04 (io), 13 GND (power) hidden to GND, 14 D05 (io), 15 D06 (io), 16 D07 (io), 17 D08 (io), 18 D09 (io), 19 D10 (io), 20 D11 (io), 21 D12 (io), 22 D13 (io), 23 D14 (io), 24 D15 (io), 25 D16 (io), 26 D17 (io), 27 D18 (io), 28 D19 (io), 29 D20 (io), 30 D21 (io), 31 D22 (io), 32 D23 (io), 33 D24 (io), 34 D25 (io), 35 D26 (io), 36 VCC (power) hidden to VCC, 37 GND (power) hidden to GND, 38 D27 (io), 39 D28 (io), 40 D29 (io), 41 D30 (io), 42 D31 (io), 43 DAST (in), 44 OD (in), 45 ~{ME} (out), 46 ~{ERR} (out), 47 MODE (in), 48 CBST (in)

## 74F420
designator U?
pins: 1 C0 (io), 2 C1 (io), 3 C2 (io), 4 C3 (io), 5 C4 (io), 6 C5 (io), 7 C6 (io), 8 D00 (in), 9 D01 (in), 10 D02 (in), 11 D03 (in), 12 VCC (power) hidden to VCC, 13 GND (power) hidden to GND, 14 D04 (in), 15 D05 (in), 16 D06 (in), 17 D07 (in), 18 D08 (in), 19 D09 (in), 20 D10 (in), 21 D11 (in), 22 D12 (in), 23 D13 (in), 24 D14 (in), 25 D15 (in), 26 D16 (in), 27 D17 (in), 28 D18 (in), 29 D19 (in), 30 D20 (in), 31 D21 (in), 32 D22 (in), 33 D23 (in), 34 D24 (in), 35 D25 (in), 36 GND (power) hidden to GND, 37 D26 (in), 38 D27 (in), 39 D28 (in), 40 D29 (in), 41 D30 (in), 42 D31 (in), 44 CB (in), 45 DEF (out), 46 SEF (out), 47 S1 (in), 48 S0 (in)

## 74F432
designator U?
pins: 1 S1 (in), 2 M (in), 3 D1 (in), 4 O1 (hiz), 5 D2 (in), 6 O2 (hiz), 7 D3 (in), 8 O3 (hiz), 9 D4 (in), 10 O4 (hiz), 11 STB (in), 12 GND (power) hidden to GND, 13 S2 (in), 14 CLR (in), 15 O5 (hiz), 16 D5 (in), 17 O6 (hiz), 18 D6 (in), 19 O7 (hiz), 20 D7 (in), 21 O8 (hiz), 22 D8 (in), 23 INT (out), 24 VCC (power) hidden to VCC

## 74F433
designator U?
pins: 1 IRF (out), 2 PL (in), 3 DO (in), 4 D1 (in), 5 D2 (in), 6 D3 (in), 7 DS (in), 8 CPSI (in), 9 IES (in), 10 TTS (in), 11 MR (in), 12 GND (power) hidden to GND, 13 TOP (in), 14 TOS (in), 15 OES (in), 16 CPSO (in), 17 EO (in), 18 Q3 (out), 19 Q2 (out), 20 Q1 (out), 21 Q0 (out), 22 QS (out), 23 ORE (out), 24 VCC (power) hidden to VCC

## 74F500
designator U?
pins: 1 VEE (power) hidden to VEE, 4 PM (out), 5 PL (out), 6 VEE (power) hidden to VEE, 7 VCC (power) hidden to VCC, 8 GND (power) hidden to GND, 9 Q5 (out), 10 Q4 (out), 11 Q3 (out), 12 Q2 (out), 13 Q1 (out), 14 Q0 (out), 15 CVT (out), 16 VRB (in), 17 VIN (in), 18 AGND (in), 19 VIN (in), 20 AGND (in), 21 VIN (in), 22 VRT (in)

## 74F505
designator U?
pins: 1 DGND (power) hidden to DGND, 2 Q7 (out), 3 Q6 (out), 4 Q5 (out), 5 Q4 (out), 6 Q3 (out), 7 DGND (power) hidden to DGND, 8 Q2 (out), 9 Q1 (out), 10 Q0 (out), 11 ~{OE} (in), 12 DGND (power) hidden to DGND, 13 DVCC (power) hidden to DVCC, 14 ~{CC} (out), 15 ~{S}/H (in), 16 ~{CNV} (in), 17 CP (in), 18 AVEE (power) hidden to AVEE, 19 AVEE (power) hidden to AVEE, 20 VTRIM (in), 21 AGND (power) hidden to AGND, 22 VIN- (in), 23 VIN+ (in), 24 AVCC (power) hidden to AVCC

## 74F524
designator U?
pins: 1 S0 (in), 2 IO0 (io), 3 IO1 (io), 4 IO2 (io), 5 IO3 (io), 6 IO4 (io), 7 IO5 (io), 8 IO6 (io), 9 IO7 (io), 10 GND (power) hidden to GND, 11 CP (in), 12 MODE (in), 13 LT (out), 14 GT (out), 15 EQ (out), 16 C/SO (out), 17 C/SI (in), 18 SE (in), 19 S1 (in), 20 VCC (power) hidden to VCC

## 74F525
designator U?
pins: 1 Q/2 (out), 2 Q (out), 3 XTR (in), 4 D00 (in), 5 D01 (in), 6 D02 (in), 7 D03 (in), 8 D04 (in), 9 D05 (in), 10 D06 (in), 11 D07 (in), 12 WE (in), 12 VCC (power) hidden to VCC, 13 XTAL (out), 14 GND (power) hidden to GND, 15 CP (in), 16 MR (in), 17 D08 (in), 18 D09 (in), 19 D10 (in), 20 D11 (in), 21 D12 (in), 22 D13 (in), 23 D14 (in), 24 D15 (in), 25 M0 (in), 26 M1 (in), 27 M2 (in)

## 74F537
designator U?
pins: 1 O2 (hiz), 2 O1 (hiz), 3 O0 (hiz), 4 P (in), 5 OE (in), 6 A0 (in), 7 A1 (in), 8 O5 (hiz), 9 O6 (hiz), 10 GND (power) hidden to GND, 11 O7 (hiz), 12 O8 (hiz), 13 O9 (hiz), 14 E2 (in), 15 E1 (in), 16 A2 (in), 17 A3 (in), 18 O4 (hiz), 19 O3 (hiz), 20 VCC (power) hidden to VCC

## 74F545
designator U?
pins: 1 A0 (io), 2 A1 (io), 3 A2 (io), 4 A3 (io), 5 A4 (io), 6 A5 (io), 7 A6 (io), 8 A7 (io), 9 G (in), 10 GND (power) hidden to GND, 11 DIR (in), 12 B7 (io), 13 B6 (io), 14 B5 (io), 15 B4 (io), 16 B3 (io), 17 B2 (io), 18 B1 (io), 19 B0 (io), 20 VCC (power) hidden to VCC

## 74F547
designator U?
pins: 1 O2 (out), 2 O1 (out), 3 ACK (out), 4 WR (hiz), 5 RD (in), 6 A0 (in), 7 A1 (in), 8 O5 (out), 9 O6 (out), 10 GND (power) hidden to GND, 11 O7 (out), 12 O0 (out), 13 E3 (in), 14 E2 (in), 15 E1 (in), 16 LE (in), 17 A2 (in), 18 O4 (out), 19 O3 (out), 20 VCC (power) hidden to VCC

## 74F548
designator U?
pins: 1 O2 (out), 2 O1 (out), 3 ACK (out), 4 WR (hiz), 5 RD (in), 6 A0 (in), 7 A1 (in), 8 O5 (out), 9 O6 (out), 10 GND (power) hidden to GND, 11 O7 (out), 12 O0 (out), 13 E4 (in), 14 E3 (in), 15 E2 (in), 16 E1 (in), 17 A2 (in), 18 O4 (out), 19 O3 (out), 20 VCC (power) hidden to VCC

## 74F550
designator U?
pins: 1 A3 (io), 2 A4 (io), 3 A5 (io), 4 CFBA (in), 5 FBA (out), 6 A6 (io), 7 A7 (io), 8 VCC (power) hidden to VCC, 9 B7 (io), 10 B6 (io), 11 FAB (out), 12 CFAB (in), 13 B5 (io), 14 B4 (io), 15 B3 (io), 16 B2 (io), 17 B1 (io), 18 B0 (io), 19 OEB (in), 20 CPA (in), 22 GND (power) hidden to GND, 24 CPB (in), 25 OEA (in), 26 A0 (io), 27 A1 (io), 28 A2 (io)

## 74F552
designator U?
pins: 1 A3 (io), 1 B4 (io), 2 A4 (io), 2 B5 (io), 3 A5 (io), 3 B6 (io), 4 B7 (io), 6 A6 (io), 6 CPR (in), 7 A7 (io), 7 CER (in), 8 VCC (power) hidden to VCC, 9 ERR (out), 10 FS (out), 19 OEAS (in), 20 CPS (in), 21 CES (in), 22 GND (power) hidden to GND, 24 FR (out), 25 B0 (io), 26 A0 (io), 26 B1 (io), 27 A1 (io), 27 B2 (io), 28 A2 (io), 28 B3 (io)

## 74F557
designator U?
pins: 1 X0 (in), 2 X1 (in), 3 X2 (in), 4 X3 (in), 5 X4 (in), 6 X5 (in), 7 X6 (in), 8 X7 (in), 9 R (in), 10 VCC (power) hidden to VCC, 11 LE (in), 12 Y0 (in), 13 Y1 (in), 14 Y2 (in), 15 Y3 (in), 16 Y4 (in), 17 Y5 (in), 18 Y6 (in), 19 Y7 (in), 20 YM (in), 21 OE (in), 22 S15n (out), 23 S15 (out), 24 S14 (out), 25 S13 (out), 26 S12 (out), 27 S11 (out), 28 S10 (out), 29 S09 (out), 30 GND (power) hidden to GND, 31 S08 (out), 32 S07 (out), 33 S06 (out), 34 S05 (out), 35 S04 (out), 36 S03 (out), 37 S02 (out), 38 S01 (out), 39 S00 (out), 40 XM (in)

## 74F558
designator U?
pins: 1 X0 (in), 2 X1 (in), 3 X2 (in), 4 X3 (in), 5 X4 (in), 6 X5 (in), 7 X6 (in), 8 X7 (in), 9 RS (in), 10 VCC (power) hidden to VCC, 11 RU (in), 12 Y0 (in), 13 Y1 (in), 14 Y2 (in), 15 Y3 (in), 16 Y4 (in), 17 Y5 (in), 18 Y6 (in), 19 Y7 (in), 20 YM (in), 21 OE (in), 22 S15n (out), 23 S15 (out), 24 S14 (out), 25 S13 (out), 26 S12 (out), 27 S11 (out), 28 S10 (out), 29 S09 (out), 30 GND (power) hidden to GND, 31 S08 (out), 32 S07 (out), 33 S06 (out), 34 S05 (out), 35 S04 (out), 36 S03 (out), 37 S02 (out), 38 S01 (out), 39 S00 (out), 40 XM (in)

## 74F579
designator U?
pins: 1 CP (in), 2 IO0 (io), 3 IO1 (io), 4 IO2 (io), 5 IO3 (io), 6 GND (power) hidden to GND, 7 IO4 (io), 8 IO5 (io), 9 IO6 (io), 10 IO7 (io), 11 OE (in), 12 CS (in), 13 PE (in), 14 U/~{D} (in), 15 TC (out), 16 VCC (power) hidden to VCC, 17 CET (in), 18 CEP (in), 19 SR (in), 20 MR (in)

## 74F582
designator U?
pins: 1 B2 (in), 2 ~{A}/S (in), 3 B3 (in), 4 A3 (in), 5 C/~{B} (in), 6 ~{G} (out), 7 ~{P} (out), 8 C/~{B}N+4 (out), 10 A=B (out), 12 GND (power) hidden to GND, 13 F2 (out), 14 F3 (out), 16 F1 (out), 17 F0 (out), 18 B0 (in), 19 A0 (in), 20 A1 (in), 21 A2 (in), 22 B1 (in), 24 VCC (power) hidden to VCC

## 74F588
designator U?
pins: 1 A1 (io), 2 A2 (io), 3 A3 (io), 4 A4 (io), 5 A5 (io), 6 A6 (io), 7 A7 (io), 8 A8 (io), 9 OE (in), 10 GND (power) hidden to GND, 11 T/~{R} (in), 12 B8 (io), 13 B7 (io), 14 B6 (io), 15 B5 (io), 16 B4 (io), 17 B3 (io), 18 B2 (io), 19 B1 (io), 20 VCC (power) hidden to VCC

## 74F655
designator U?
pins: 1 OE1 (io), 2 OE3 (io), 3 PI (in), 4 I0 (in), 5 I1 (in), 6 I2 (in), 7 I3 (in), 8 I4 (in), 9 I5 (in), 10 I6 (in), 11 I7 (in), 12 GND (power) hidden to GND, 13 O7 (hiz), 14 O6 (hiz), 15 O5 (hiz), 16 O4 (hiz), 17 O3 (hiz), 18 O2 (hiz), 19 O1 (hiz), 20 O0 (hiz), 21 POn (out), 22 PO (out), 23 OE2 (io), 24 VCC (power) hidden to VCC

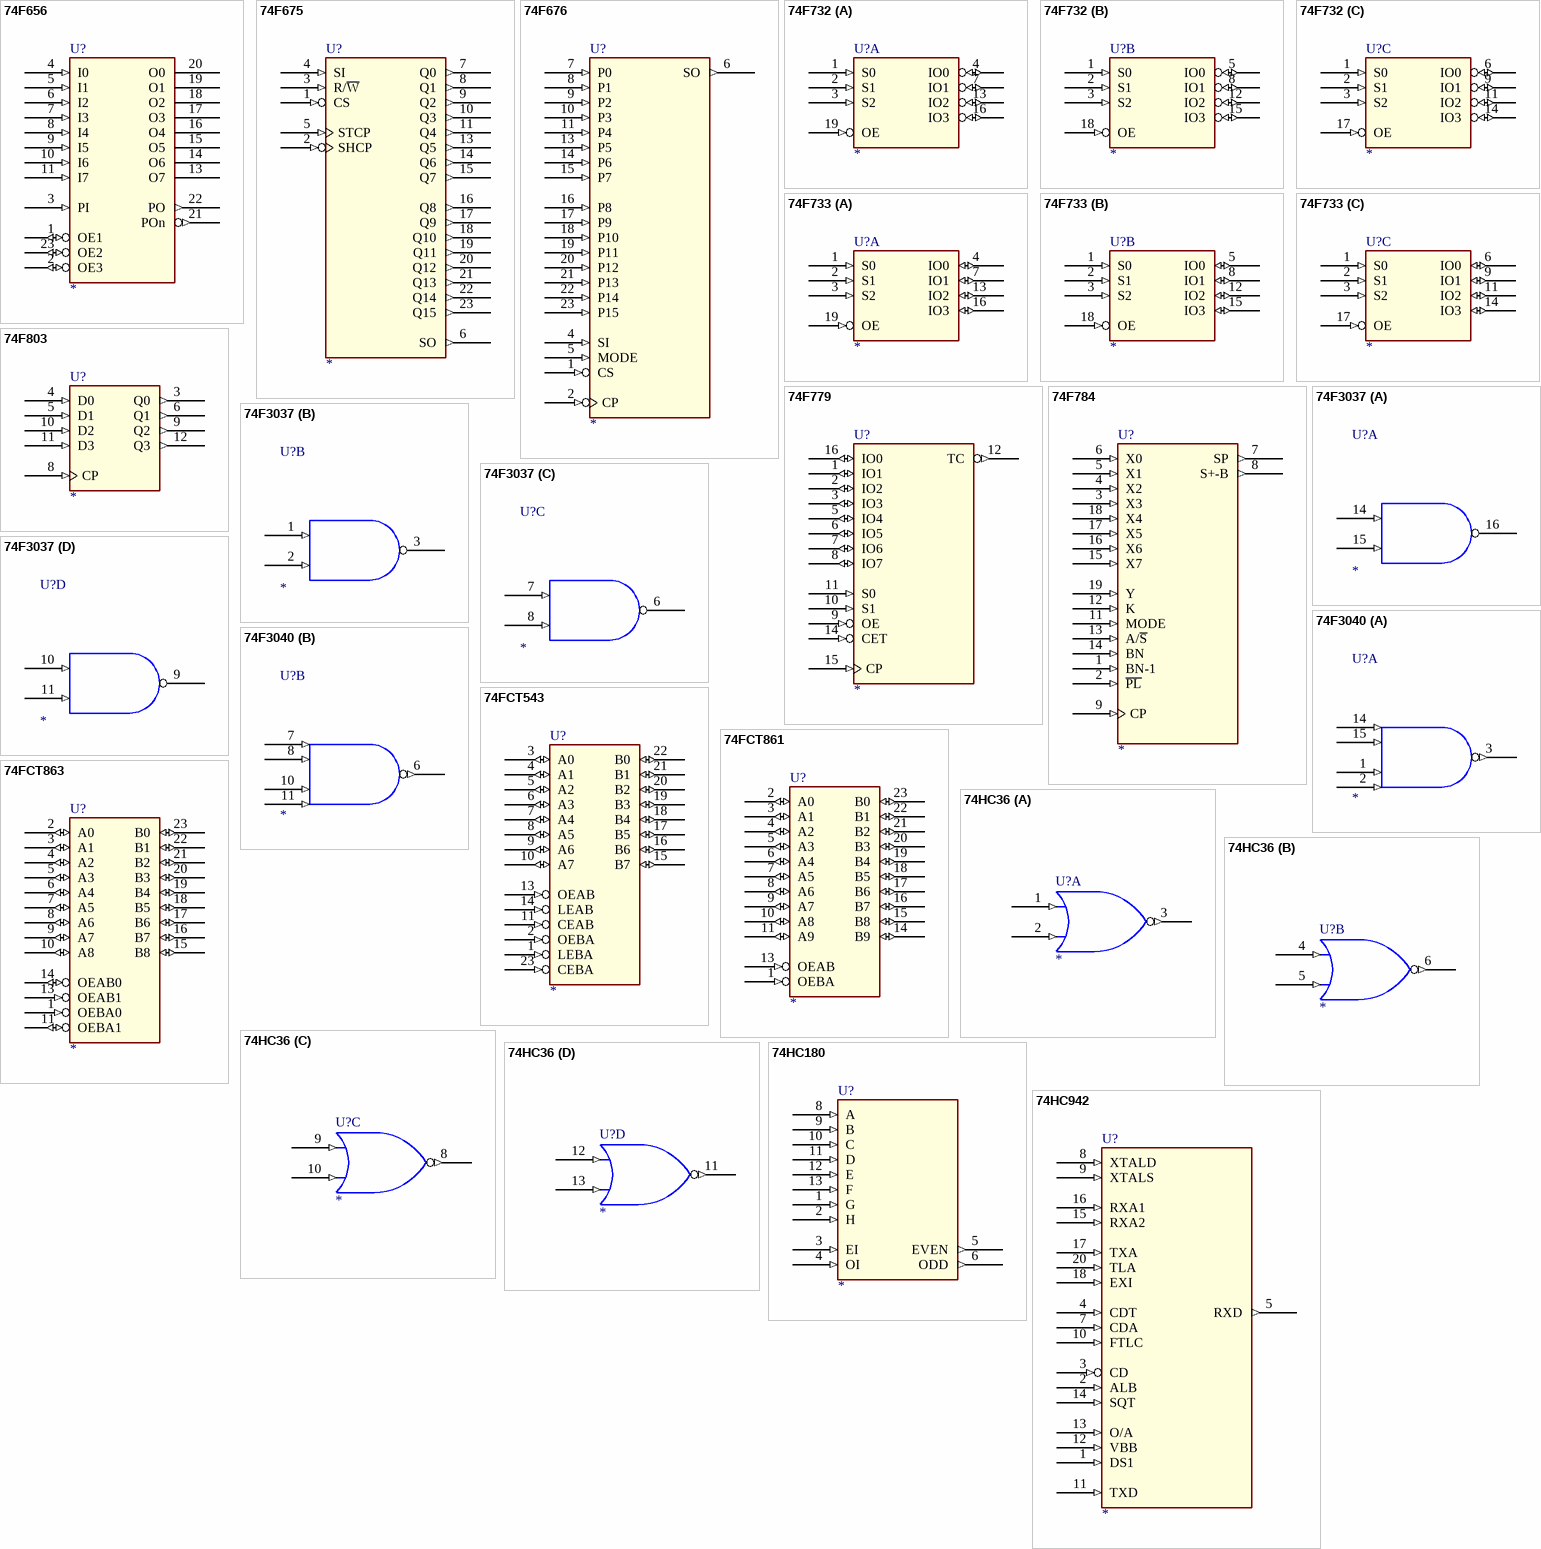
[diagram p11: symbols 74F656 to 74HC942]

## 74F656
designator U?
pins: 1 OE1 (io), 2 OE3 (io), 3 PI (in), 4 I0 (in), 5 I1 (in), 6 I2 (in), 7 I3 (in), 8 I4 (in), 9 I5 (in), 10 I6 (in), 11 I7 (in), 12 GND (power) hidden to GND, 13 O7 (hiz), 14 O6 (hiz), 15 O5 (hiz), 16 O4 (hiz), 17 O3 (hiz), 18 O2 (hiz), 19 O1 (hiz), 20 O0 (hiz), 21 POn (out), 22 PO (out), 23 OE2 (io), 24 VCC (power) hidden to VCC

## 74F675
designator U?
pins: 1 CS (in), 2 SHCP (in), 3 R/~{W} (in), 4 SI (in), 5 STCP (in), 6 SO (out), 7 Q0 (out), 8 Q1 (out), 9 Q2 (out), 10 Q3 (out), 11 Q4 (out), 12 GND (power) hidden to GND, 13 Q5 (out), 14 Q6 (out), 15 Q7 (out), 16 Q8 (out), 17 Q9 (out), 18 Q10 (out), 19 Q11 (out), 20 Q12 (out), 21 Q13 (out), 22 Q14 (out), 23 Q15 (out), 24 VCC (power) hidden to VCC

## 74F676
designator U?
pins: 1 CS (in), 2 CP (in), 4 SI (in), 5 MODE (in), 6 SO (out), 7 P0 (in), 8 P1 (in), 9 P2 (in), 10 P3 (in), 11 P4 (in), 12 GND (power) hidden to GND, 13 P5 (in), 14 P6 (in), 15 P7 (in), 16 P8 (in), 17 P9 (in), 18 P10 (in), 19 P11 (in), 20 P12 (in), 21 P13 (in), 22 P14 (in), 23 P15 (in), 24 VCC (power) hidden to VCC

## 74F732
designator U?
part A pins: 1 S0 (in), 2 S1 (in), 3 S2 (in), 4 IO0 (io), 7 IO1 (io), 10 GND (power) hidden to GND, 13 IO2 (io), 16 IO3 (io), 19 OE (in), 20 VCC (power) hidden to VCC
part B pins: 1 S0 (in), 2 S1 (in), 3 S2 (in), 5 IO0 (io), 8 IO1 (io), 10 GND (power) hidden to GND, 12 IO2 (io), 15 IO3 (io), 18 OE (in), 20 VCC (power) hidden to VCC
part C pins: 1 S0 (in), 2 S1 (in), 3 S2 (in), 6 IO0 (io), 9 IO1 (io), 10 GND (power) hidden to GND, 11 IO2 (io), 14 IO3 (io), 17 OE (in), 20 VCC (power) hidden to VCC

## 74F733
designator U?
part A pins: 1 S0 (in), 2 S1 (in), 3 S2 (in), 4 IO0 (io), 7 IO1 (io), 10 GND (power) hidden to GND, 13 IO2 (io), 16 IO3 (io), 19 OE (in), 20 VCC (power) hidden to VCC
part B pins: 1 S0 (in), 2 S1 (in), 3 S2 (in), 5 IO0 (io), 8 IO1 (io), 10 GND (power) hidden to GND, 12 IO2 (io), 15 IO3 (io), 18 OE (in), 20 VCC (power) hidden to VCC
part C pins: 1 S0 (in), 2 S1 (in), 3 S2 (in), 6 IO0 (io), 9 IO1 (io), 10 GND (power) hidden to GND, 11 IO2 (io), 14 IO3 (io), 17 OE (in), 20 VCC (power) hidden to VCC

## 74F779
designator U?
pins: 1 IO1 (io), 2 IO2 (io), 3 IO3 (io), 4 GND (power) hidden to GND, 5 IO4 (io), 6 IO5 (io), 7 IO6 (io), 8 IO7 (io), 9 OE (in), 10 S1 (in), 11 S0 (in), 12 TC (out), 13 VCC (power) hidden to VCC, 14 CET (in), 15 CP (in), 16 IO0 (io)

## 74F784
designator U?
pins: 1 BN-1 (in), 2 ~{PL} (in), 3 X3 (in), 4 X2 (in), 5 X1 (in), 6 X0 (in), 7 SP (out), 8 S+-B (out), 9 CP (in), 10 GND (power) hidden to GND, 11 MODE (in), 12 K (in), 13 A/~{S} (in), 14 BN (in), 15 X7 (in), 16 X6 (in), 17 X5 (in), 18 X4 (in), 19 Y (in), 20 VCC (power) hidden to VCC

## 74F803
designator U?
pins: 1 GND (power) hidden to GND, 3 Q0 (out), 4 D0 (in), 5 D1 (in), 6 Q1 (out), 7 GND (power) hidden to GND, 8 CP (in), 9 Q2 (out), 10 D2 (in), 11 D3 (in), 12 Q3 (out), 14 VCC (power) hidden to VCC

## 74F3037
designator U?
part A pins: 4 GND (power) hidden to GND, 13 VCC (power) hidden to VCC, 14 I0 (in), 15 I1 (in), 16 O (oc)
part B pins: 1 I0 (in), 2 I1 (in), 3 O (oc), 4 GND (power) hidden to GND, 13 VCC (power) hidden to VCC
part C pins: 5 GND (power) hidden to GND, 6 O (oc), 7 I0 (in), 8 I1 (in), 12 VCC (power) hidden to VCC
part D pins: 5 GND (power) hidden to GND, 9 O (oc), 10 I0 (in), 11 I1 (in), 12 VCC (power) hidden to VCC
1 alternate drawing of the same symbol

## 74F3040
designator U?
part A pins: 1 I2 (in), 2 I3 (in), 3 O (out), 4 GND (power) hidden to GND, 13 VCC (power) hidden to VCC, 14 I0 (in), 15 I1 (in)
part B pins: 5 GND (power) hidden to GND, 6 O (out), 7 I0 (in), 8 I1 (in), 10 I2 (in), 11 I3 (in), 12 VCC (power) hidden to VCC
1 alternate drawing of the same symbol

## 74FCT543
designator U?
pins: 1 LEBA (in), 2 OEBA (in), 3 A0 (io), 4 A1 (io), 5 A2 (io), 6 A3 (io), 7 A4 (io), 8 A5 (io), 9 A6 (io), 10 A7 (io), 11 CEAB (in), 12 GND (power) hidden to GND, 13 OEAB (in), 14 LEAB (in), 15 B7 (io), 16 B6 (io), 17 B5 (io), 18 B4 (io), 19 B3 (io), 20 B2 (io), 21 B1 (io), 22 B0 (io), 23 CEBA (in), 24 VCC (power) hidden to VCC

## 74FCT861
designator U?
pins: 1 OEBA (in), 2 A0 (io), 3 A1 (io), 4 A2 (io), 5 A3 (io), 6 A4 (io), 7 A5 (io), 8 A6 (io), 9 A7 (io), 10 A8 (io), 11 A9 (io), 12 GND (power) hidden to GND, 13 OEAB (in), 14 B9 (io), 15 B8 (io), 16 B7 (io), 17 B6 (io), 18 B5 (io), 19 B4 (io), 20 B3 (io), 21 B2 (io), 22 B1 (io), 23 B0 (io), 24 VCC (power) hidden to VCC

## 74FCT863
designator U?
pins: 1 OEBA0 (in), 2 A0 (io), 3 A1 (io), 4 A2 (io), 5 A3 (io), 6 A4 (io), 7 A5 (io), 8 A6 (io), 9 A7 (io), 10 A8 (io), 11 OEBA1 (io), 12 GND (power) hidden to GND, 13 OEAB1 (in), 14 OEAB0 (io), 15 B8 (io), 16 B7 (io), 17 B6 (io), 18 B5 (io), 19 B4 (io), 20 B3 (io), 21 B2 (io), 22 B1 (io), 23 B0 (io), 24 VCC (power) hidden to VCC

## 74HC36
designator U?
part A pins: 1 I0 (in), 2 I1 (in), 3 O (out), 7 GND (power) hidden to GND, 14 VCC (power) hidden to VCC
part B pins: 4 I0 (in), 5 I1 (in), 6 O (out), 7 GND (power) hidden to GND, 14 VCC (power) hidden to VCC
part C pins: 7 GND (power) hidden to GND, 8 O (out), 9 I0 (in), 10 I1 (in), 14 VCC (power) hidden to VCC
part D pins: 7 GND (power) hidden to GND, 11 O (out), 12 I0 (in), 13 I1 (in), 14 VCC (power) hidden to VCC
1 alternate drawing of the same symbol

## 74HC180
designator U?
pins: 1 G (in), 2 H (in), 3 EI (in), 4 OI (in), 5 EVEN (out), 6 ODD (out), 7 GND (power) hidden to GND, 8 A (in), 9 B (in), 10 C (in), 11 D (in), 12 E (in), 13 F (in), 14 VCC (power) hidden to VCC

## 74HC942
designator U?
pins: 1 DS1 (in), 2 ALB (in), 3 CD (in), 4 CDT (in), 5 RXD (out), 6 VCC (power) hidden to VCC, 7 CDA (in), 8 XTALD (in), 9 XTALS (in), 10 FTLC (in), 11 TXD (in), 12 VBB (in), 13 O/A (in), 14 SQT (in), 15 RXA2 (in), 16 RXA1 (in), 17 TXA (in), 18 EXI (in), 19 GND (power) hidden to GND, 20 TLA (in)

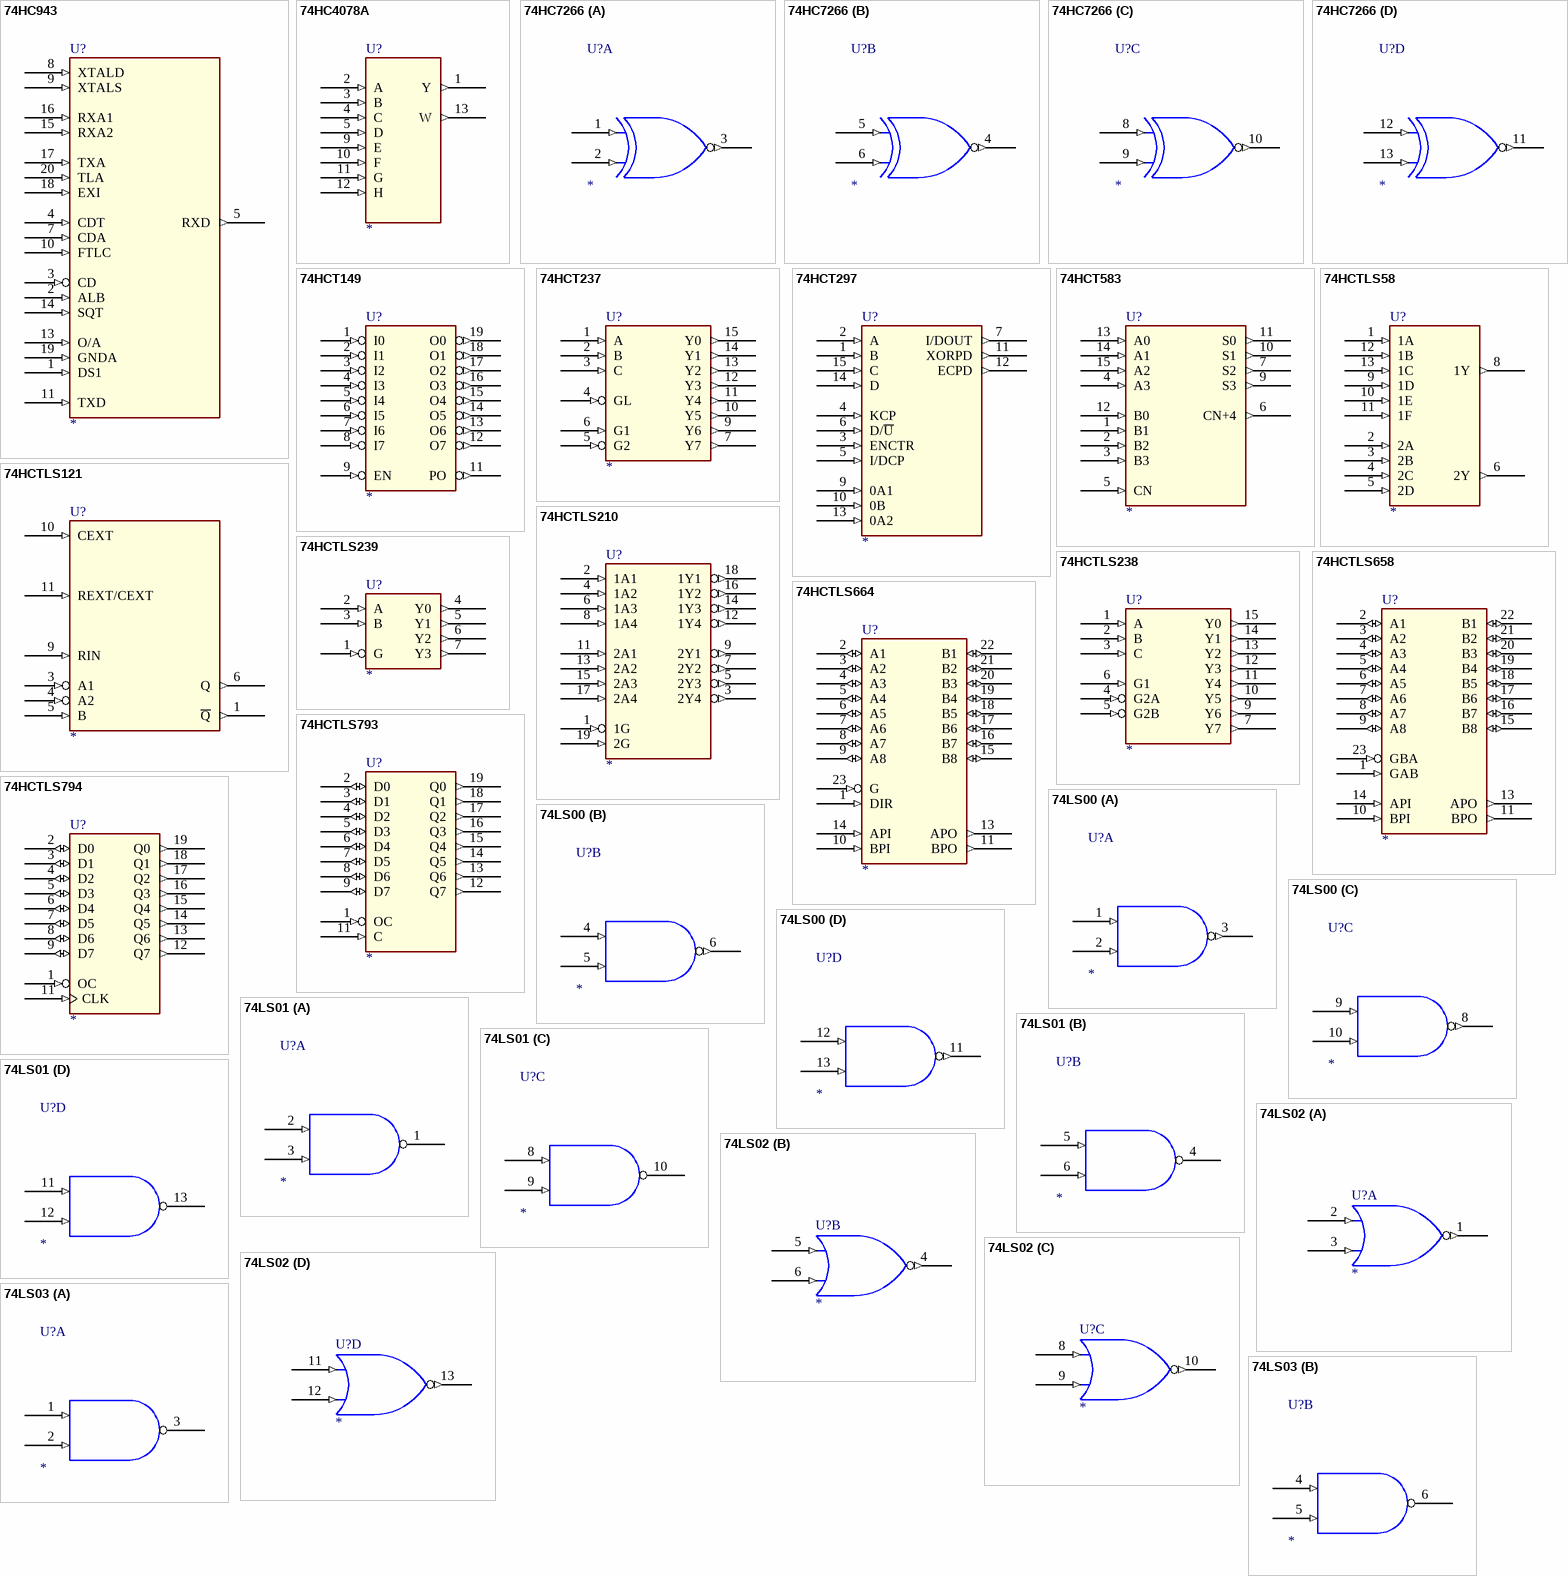
[diagram p12: symbols 74HC943 to 74LS03]

## 74HC943
designator U?
pins: 1 DS1 (in), 2 ALB (in), 3 CD (in), 4 CDT (in), 5 RXD (out), 6 VCC (power) hidden to VCC, 7 CDA (in), 8 XTALD (in), 9 XTALS (in), 10 FTLC (in), 11 TXD (in), 12 GND (power) hidden to GND, 13 O/A (in), 14 SQT (in), 15 RXA2 (in), 16 RXA1 (in), 17 TXA (in), 18 EXI (in), 19 GNDA (in), 20 TLA (in)

## 74HC4078A
designator U?
pins: 1 Y (out), 2 A (in), 3 B (in), 4 C (in), 5 D (in), 7 GND (power) hidden to GND, 9 E (in), 10 F (in), 11 G (in), 12 H (in), 13 W (out), 14 VCC (power) hidden to VCC

## 74HC7266
designator U?
part A pins: 1 A (in), 2 B (in), 3 Y (out), 7 GND (power) hidden to GND, 14 VCC (power) hidden to VCC
part B pins: 4 Y (out), 5 A (in), 6 B (in), 7 GND (power) hidden to GND, 14 VCC (power) hidden to VCC
part C pins: 7 GND (power) hidden to GND, 8 A (in), 9 B (in), 10 Y (out), 14 VCC (power) hidden to VCC
part D pins: 7 GND (power) hidden to GND, 11 Y (out), 12 A (in), 13 B (in), 14 VCC (power) hidden to VCC

## 74HCT149
designator U?
pins: 1 I0 (in), 2 I1 (in), 3 I2 (in), 4 I3 (in), 5 I4 (in), 6 I5 (in), 7 I6 (in), 8 I7 (in), 9 EN (in), 10 GND (power) hidden to GND, 11 PO (out), 12 O7 (out), 13 O6 (out), 14 O5 (out), 15 O4 (out), 16 O3 (out), 17 O2 (out), 18 O1 (out), 19 O0 (out), 20 VCC (power) hidden to VCC

## 74HCT237
designator U?
pins: 1 A (in), 2 B (in), 3 C (in), 4 GL (in), 5 G2 (in), 6 G1 (in), 7 Y7 (out), 8 GND (power) hidden to GND, 9 Y6 (out), 10 Y5 (out), 11 Y4 (out), 12 Y3 (out), 13 Y2 (out), 14 Y1 (out), 15 Y0 (out), 16 VCC (power) hidden to VCC

## 74HCT297
designator U?
pins: 1 B (in), 2 A (in), 3 ENCTR (in), 4 KCP (in), 5 I/DCP (in), 6 D/~{U} (in), 7 I/DOUT (out), 8 GND (power) hidden to GND, 9 0A1 (in), 10 0B (in), 11 XORPD (out), 12 ECPD (out), 13 0A2 (in), 14 D (in), 15 C (in), 16 VCC (power) hidden to VCC

## 74HCT583
designator U?
pins: 1 B1 (in), 2 B2 (in), 3 B3 (in), 4 A3 (in), 5 CN (in), 6 CN+4 (out), 7 S2 (out), 8 GND (power) hidden to GND, 9 S3 (out), 10 S1 (out), 11 S0 (out), 12 B0 (in), 13 A0 (in), 14 A1 (in), 15 A2 (in), 16 VCC (power) hidden to VCC

## 74HCTLS58
designator U?
pins: 1 1A (in), 2 2A (in), 3 2B (in), 4 2C (in), 5 2D (in), 6 2Y (out), 7 GND (power) hidden to GND, 8 1Y (out), 9 1D (in), 10 1E (in), 11 1F (in), 12 1B (in), 13 1C (in), 14 VCC (power) hidden to VCC

## 74HCTLS121
designator U?
pins: 1 ~{Q} (out), 3 A1 (in), 4 A2 (in), 5 B (in), 6 Q (out), 7 GND (power) hidden to GND, 9 RIN (in), 10 CEXT (in), 11 REXT/CEXT (in), 14 VCC (power) hidden to VCC

## 74HCTLS210
designator U?
pins: 1 1G (in), 2 1A1 (in), 3 2Y4 (out), 4 1A2 (in), 5 2Y3 (out), 6 1A3 (in), 7 2Y2 (out), 8 1A4 (in), 9 2Y1 (out), 10 GND (power) hidden to GND, 11 2A1 (in), 12 1Y4 (out), 13 2A2 (in), 14 1Y3 (out), 15 2A3 (in), 16 1Y2 (out), 17 2A4 (in), 18 1Y1 (out), 19 2G (in), 20 VCC (power) hidden to VCC

## 74HCTLS238
designator U?
pins: 1 A (in), 2 B (in), 3 C (in), 4 G2A (in), 5 G2B (in), 6 G1 (in), 7 Y7 (out), 8 GND (power) hidden to GND, 9 Y6 (out), 10 Y5 (out), 11 Y4 (out), 12 Y3 (out), 13 Y2 (out), 14 Y1 (out), 15 Y0 (out), 16 VCC (power) hidden to VCC

## 74HCTLS239
designator U?
pins: 1 G (in), 2 A (in), 3 B (in), 4 Y0 (out), 5 Y1 (out), 6 Y2 (out), 7 Y3 (out), 8 GND (power) hidden to GND, 16 VCC (power) hidden to VCC

## 74HCTLS658
designator U?
pins: 1 GAB (in), 2 A1 (io), 3 A2 (io), 4 A3 (io), 5 A4 (io), 6 A5 (io), 7 A6 (io), 8 A7 (io), 9 A8 (io), 10 BPI (in), 11 BPO (out), 12 GND (power) hidden to GND, 13 APO (out), 14 API (in), 15 B8 (io), 16 B7 (io), 17 B6 (io), 18 B5 (io), 19 B4 (io), 20 B3 (io), 21 B2 (io), 22 B1 (io), 23 GBA (in), 24 VCC (power) hidden to VCC

## 74HCTLS664
designator U?
pins: 1 DIR (in), 2 A1 (io), 3 A2 (io), 4 A3 (io), 5 A4 (io), 6 A5 (io), 7 A6 (io), 8 A7 (io), 9 A8 (io), 10 BPI (in), 11 BPO (out), 12 GND (power) hidden to GND, 13 APO (out), 14 API (in), 15 B8 (io), 16 B7 (io), 17 B6 (io), 18 B5 (io), 19 B4 (io), 20 B3 (io), 21 B2 (io), 22 B1 (io), 23 G (in), 24 VCC (power) hidden to VCC

## 74HCTLS793
designator U?
pins: 1 OC (in), 2 D0 (io), 3 D1 (io), 4 D2 (io), 5 D3 (io), 6 D4 (io), 7 D5 (io), 8 D6 (io), 9 D7 (io), 10 GND (power) hidden to GND, 11 C (in), 12 Q7 (out), 13 Q6 (out), 14 Q5 (out), 15 Q4 (out), 16 Q3 (out), 17 Q2 (out), 18 Q1 (out), 19 Q0 (out), 20 VCC (power) hidden to VCC

## 74HCTLS794
designator U?
pins: 1 OC (in), 2 D0 (io), 3 D1 (io), 4 D2 (io), 5 D3 (io), 6 D4 (io), 7 D5 (io), 8 D6 (io), 9 D7 (io), 10 GND (power) hidden to GND, 11 CLK (in), 12 Q7 (out), 13 Q6 (out), 14 Q5 (out), 15 Q4 (out), 16 Q3 (out), 17 Q2 (out), 18 Q1 (out), 19 Q0 (out), 20 VCC (power) hidden to VCC

## 74LS00
designator U?
part A pins: 1 I0 (in), 2 I1 (in), 3 O (out), 7 GND (power) hidden to GND, 14 VCC (power) hidden to VCC
part B pins: 4 I0 (in), 5 I1 (in), 6 O (out), 7 GND (power) hidden to GND, 14 VCC (power) hidden to VCC
part C pins: 7 GND (power) hidden to GND, 8 O (out), 9 I0 (in), 10 I1 (in), 14 VCC (power) hidden to VCC
part D pins: 7 GND (power) hidden to GND, 11 O (out), 12 I0 (in), 13 I1 (in), 14 VCC (power) hidden to VCC
1 alternate drawing of the same symbol

## 74LS01
designator U?
part A pins: 1 O (oc), 2 I0 (in), 3 I1 (in), 7 GND (power) hidden to GND, 14 VCC (power) hidden to VCC
part B pins: 4 O (oc), 5 I0 (in), 6 I1 (in), 7 GND (power) hidden to GND, 14 VCC (power) hidden to VCC
part C pins: 7 GND (power) hidden to GND, 8 I0 (in), 9 I1 (in), 10 O (oc), 14 VCC (power) hidden to VCC
part D pins: 7 GND (power) hidden to GND, 11 I0 (in), 12 I1 (in), 13 O (oc), 14 VCC (power) hidden to VCC
1 alternate drawing of the same symbol

## 74LS02
designator U?
part A pins: 1 O (out), 2 I0 (in), 3 I1 (in), 7 GND (power) hidden to GND, 14 VCC (power) hidden to VCC
part B pins: 4 O (out), 5 I0 (in), 6 I1 (in), 7 GND (power) hidden to GND, 14 VCC (power) hidden to VCC
part C pins: 7 GND (power) hidden to GND, 8 I0 (in), 9 I1 (in), 10 O (out), 14 VCC (power) hidden to VCC
part D pins: 7 GND (power) hidden to GND, 11 I0 (in), 12 I1 (in), 13 O (out), 14 VCC (power) hidden to VCC
1 alternate drawing of the same symbol

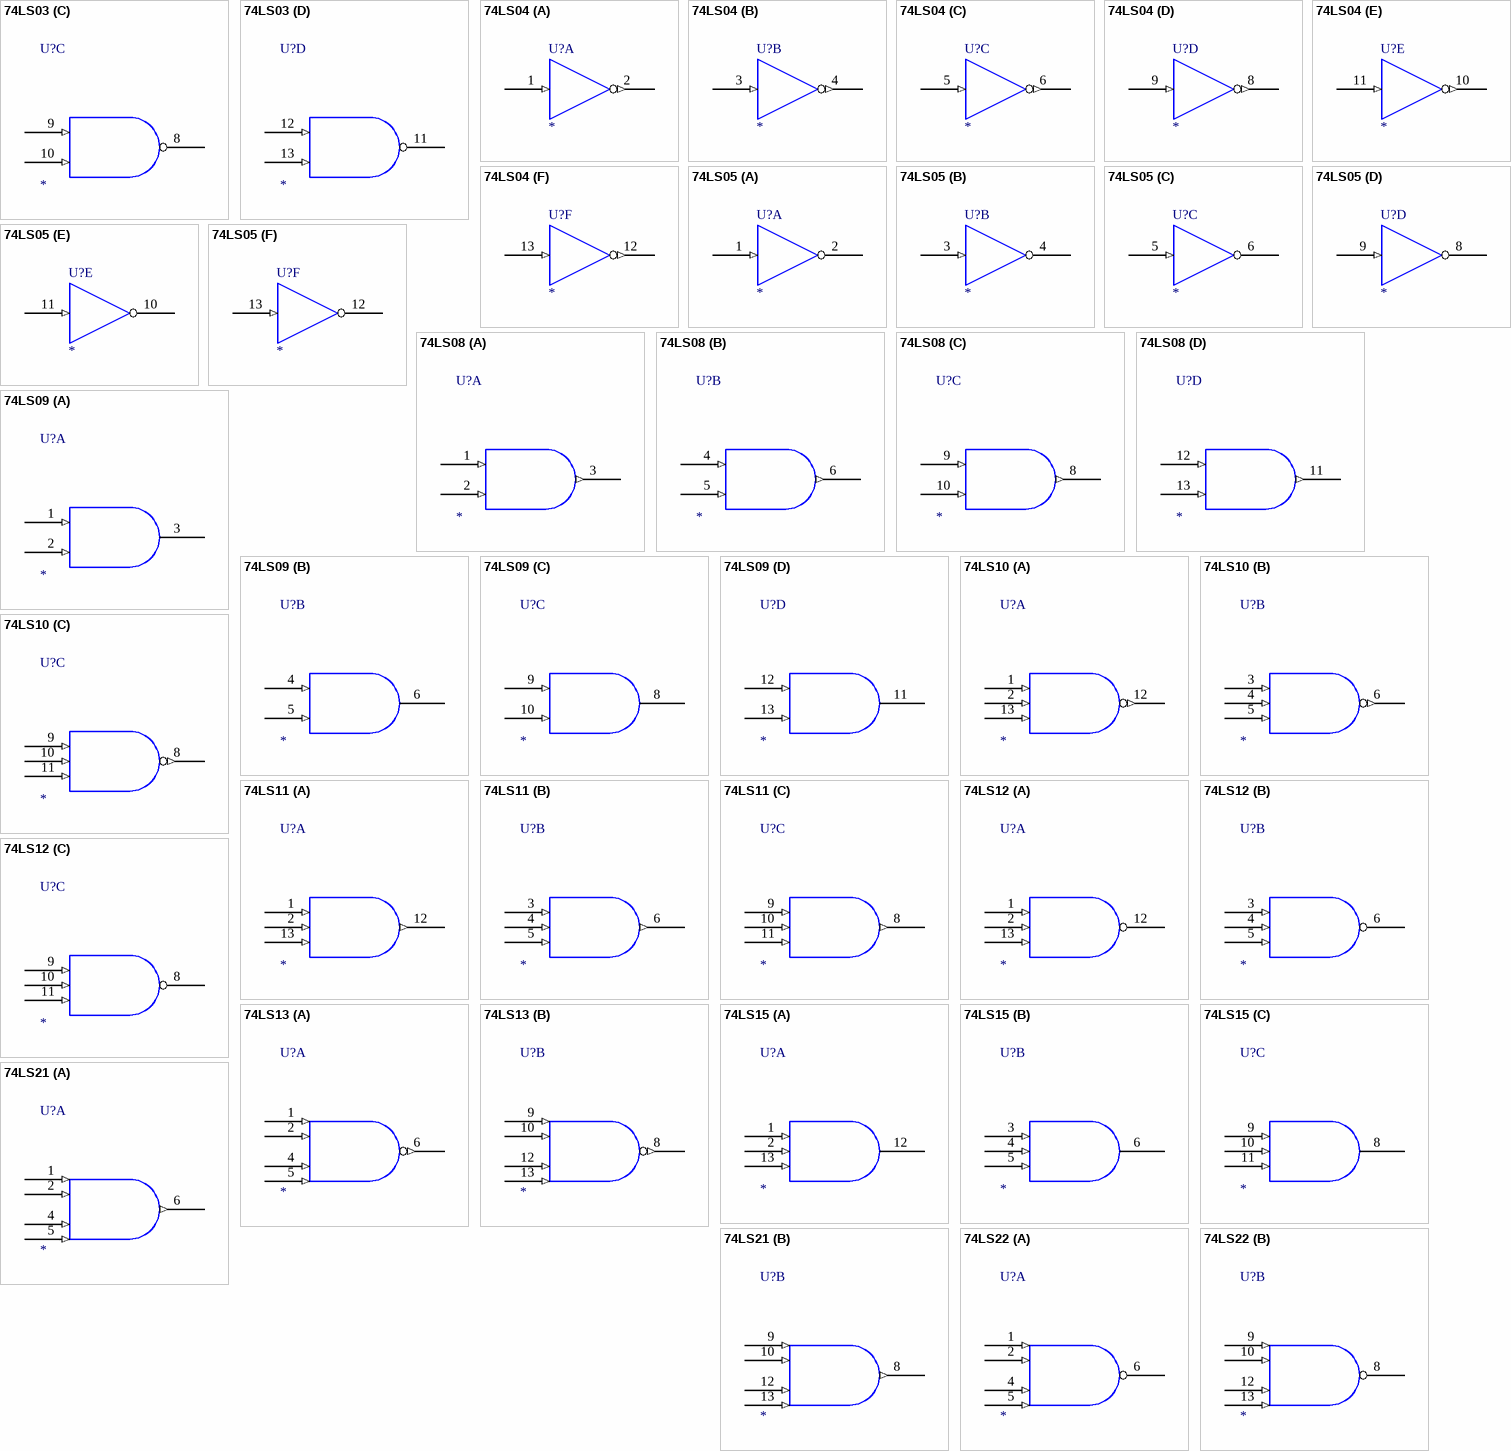
[diagram p13: symbols 74LS03 to 74LS22]

## 74LS03
designator U?
part A pins: 1 I0 (in), 2 I1 (in), 3 O (oc), 7 GND (power) hidden to GND, 14 VCC (power) hidden to VCC
part B pins: 4 I0 (in), 5 I1 (in), 6 O (oc), 7 GND (power) hidden to GND, 14 VCC (power) hidden to VCC
part C pins: 7 GND (power) hidden to GND, 8 O (oc), 9 I0 (in), 10 I1 (in), 14 VCC (power) hidden to VCC
part D pins: 7 GND (power) hidden to GND, 11 O (oc), 12 I0 (in), 13 I1 (in), 14 VCC (power) hidden to VCC
1 alternate drawing of the same symbol

## 74LS04
designator U?
part A pins: 1 I (in), 2 O (out), 7 GND (power) hidden to GND, 14 VCC (power) hidden to VCC
part B pins: 3 I (in), 4 O (out), 7 GND (power) hidden to GND, 14 VCC (power) hidden to VCC
part C pins: 5 I (in), 6 O (out), 7 GND (power) hidden to GND, 14 VCC (power) hidden to VCC
part D pins: 7 GND (power) hidden to GND, 8 O (out), 9 I (in), 14 VCC (power) hidden to VCC
part E pins: 7 GND (power) hidden to GND, 10 O (out), 11 I (in), 14 VCC (power) hidden to VCC
part F pins: 7 GND (power) hidden to GND, 12 O (out), 13 I (in), 14 VCC (power) hidden to VCC
1 alternate drawing of the same symbol

## 74LS05
designator U?
part A pins: 1 I (in), 2 O (oc), 7 GND (power) hidden to GND, 14 VCC (power) hidden to VCC
part B pins: 3 I (in), 4 O (oc), 7 GND (power) hidden to GND, 14 VCC (power) hidden to VCC
part C pins: 5 I (in), 6 O (oc), 7 GND (power) hidden to GND, 14 VCC (power) hidden to VCC
part D pins: 7 GND (power) hidden to GND, 8 O (oc), 9 I (in), 14 VCC (power) hidden to VCC
part E pins: 7 GND (power) hidden to GND, 10 O (oc), 11 I (in), 14 VCC (power) hidden to VCC
part F pins: 7 GND (power) hidden to GND, 12 O (oc), 13 I (in), 14 VCC (power) hidden to VCC
1 alternate drawing of the same symbol

## 74LS08
designator U?
part A pins: 1 I0 (in), 2 I1 (in), 3 O (out), 7 GND (power) hidden to GND, 14 VCC (power) hidden to VCC
part B pins: 4 I0 (in), 5 I1 (in), 6 O (out), 7 GND (power) hidden to GND, 14 VCC (power) hidden to VCC
part C pins: 7 GND (power) hidden to GND, 8 O (out), 9 I0 (in), 10 I1 (in), 14 VCC (power) hidden to VCC
part D pins: 7 GND (power) hidden to GND, 11 O (out), 12 I0 (in), 13 I1 (in), 14 VCC (power) hidden to VCC
1 alternate drawing of the same symbol

## 74LS09
designator U?
part A pins: 1 I0 (in), 2 I1 (in), 3 O (oc), 7 GND (power) hidden to GND, 14 VCC (power) hidden to VCC
part B pins: 4 I0 (in), 5 I1 (in), 6 O (oc), 7 GND (power) hidden to GND, 14 VCC (power) hidden to VCC
part C pins: 7 GND (power) hidden to GND, 8 O (oc), 9 I0 (in), 10 I1 (in), 14 VCC (power) hidden to VCC
part D pins: 7 GND (power) hidden to GND, 11 O (oc), 12 I0 (in), 13 I1 (in), 14 VCC (power) hidden to VCC
1 alternate drawing of the same symbol

## 74LS10
designator U?
part A pins: 1 I0 (in), 2 I1 (in), 7 GND (power) hidden to GND, 12 O (out), 13 I2 (in), 14 VCC (power) hidden to VCC
part B pins: 3 I0 (in), 4 I1 (in), 5 I2 (in), 6 O (out), 7 GND (power) hidden to GND, 14 VCC (power) hidden to VCC
part C pins: 7 GND (power) hidden to GND, 8 O (out), 9 I0 (in), 10 I1 (in), 11 I2 (in), 14 VCC (power) hidden to VCC
1 alternate drawing of the same symbol

## 74LS11
designator U?
part A pins: 1 I0 (in), 2 I1 (in), 7 GND (power) hidden to GND, 12 O (out), 13 I2 (in), 14 VCC (power) hidden to VCC
part B pins: 3 I0 (in), 4 I1 (in), 5 I2 (in), 6 O (out), 7 GND (power) hidden to GND, 14 VCC (power) hidden to VCC
part C pins: 7 GND (power) hidden to GND, 8 O (out), 9 I0 (in), 10 I1 (in), 11 I2 (in), 14 VCC (power) hidden to VCC
1 alternate drawing of the same symbol

## 74LS12
designator U?
part A pins: 1 I0 (in), 2 I1 (in), 7 GND (power) hidden to GND, 12 O (oc), 13 I2 (in), 14 VCC (power) hidden to VCC
part B pins: 3 I0 (in), 4 I1 (in), 5 I2 (in), 6 O (oc), 7 GND (power) hidden to GND, 14 VCC (power) hidden to VCC
part C pins: 7 GND (power) hidden to GND, 8 O (oc), 9 I0 (in), 10 I1 (in), 11 I2 (in), 14 VCC (power) hidden to VCC
1 alternate drawing of the same symbol

## 74LS13
designator U?
part A pins: 1 I0 (in), 2 I1 (in), 4 I2 (in), 5 I3 (in), 6 O (out), 7 GND (power) hidden to GND, 14 VCC (power) hidden to VCC
part B pins: 7 GND (power) hidden to GND, 8 O (out), 9 I0 (in), 10 I1 (in), 12 I2 (in), 13 I3 (in), 14 VCC (power) hidden to VCC
1 alternate drawing of the same symbol

## 74LS15
designator U?
part A pins: 1 I0 (in), 2 I1 (in), 7 GND (power) hidden to GND, 12 O (oc), 13 I2 (in), 14 VCC (power) hidden to VCC
part B pins: 3 I0 (in), 4 I1 (in), 5 I2 (in), 6 O (oc), 7 GND (power) hidden to GND, 14 VCC (power) hidden to VCC
part C pins: 7 GND (power) hidden to GND, 8 O (oc), 9 I0 (in), 10 I1 (in), 11 I2 (in), 14 VCC (power) hidden to VCC
1 alternate drawing of the same symbol

## 74LS21
designator U?
part A pins: 1 I0 (in), 2 I1 (in), 4 I2 (in), 5 I3 (in), 6 O (out), 7 GND (power) hidden to GND, 14 VCC (power) hidden to VCC
part B pins: 7 GND (power) hidden to GND, 8 O (out), 9 I0 (in), 10 I1 (in), 12 I2 (in), 13 I3 (in), 14 VCC (power) hidden to VCC
1 alternate drawing of the same symbol

## 74LS22
designator U?
part A pins: 1 I0 (in), 2 I1 (in), 4 I2 (in), 5 I3 (in), 6 O (oc), 7 GND (power) hidden to GND, 14 VCC (power) hidden to VCC
part B pins: 7 GND (power) hidden to GND, 8 O (oc), 9 I0 (in), 10 I1 (in), 12 I2 (in), 13 I3 (in), 14 VCC (power) hidden to VCC
1 alternate drawing of the same symbol

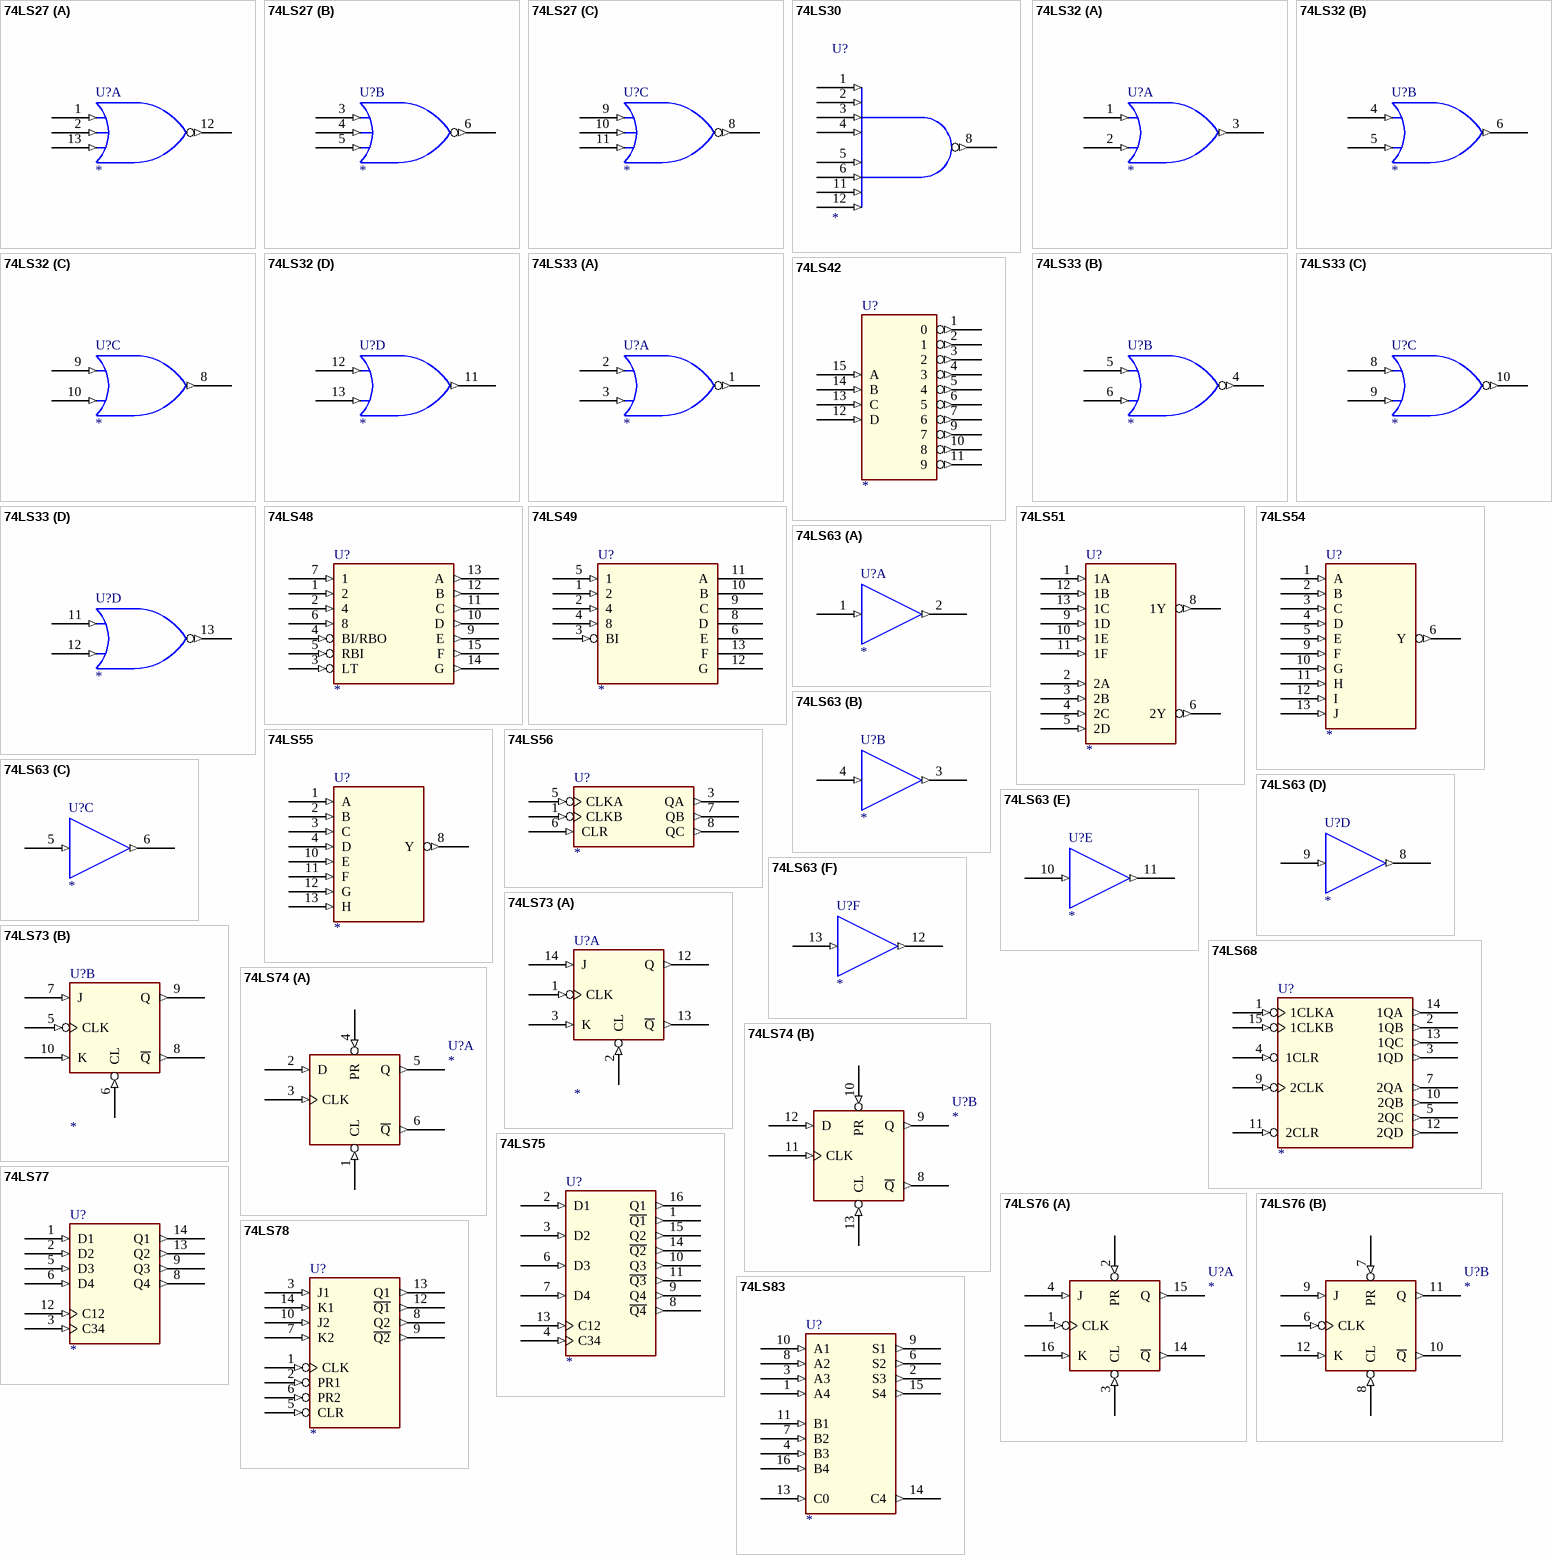
[diagram p14: symbols 74LS27 to 74LS83]

## 74LS27
designator U?
part A pins: 1 I0 (in), 2 I1 (in), 7 GND (power) hidden to GND, 12 O (out), 13 I2 (in), 14 VCC (power) hidden to VCC
part B pins: 3 I0 (in), 4 I1 (in), 5 I2 (in), 6 O (out), 7 GND (power) hidden to GND, 14 VCC (power) hidden to VCC
part C pins: 7 GND (power) hidden to GND, 8 O (out), 9 I0 (in), 10 I1 (in), 11 I2 (in), 14 VCC (power) hidden to VCC
1 alternate drawing of the same symbol

## 74LS30
designator U?
pins: 1 I0 (in), 2 I1 (in), 3 I2 (in), 4 I3 (in), 5 I4 (in), 6 I5 (in), 7 GND (power) hidden to GND, 8 O (out), 11 I6 (in), 12 I7 (in), 14 VCC (power) hidden to VCC
1 alternate drawing of the same symbol

## 74LS32
designator U?
part A pins: 1 I0 (in), 2 I1 (in), 3 O (out), 7 GND (power) hidden to GND, 14 VCC (power) hidden to VCC
part B pins: 4 I0 (in), 5 I1 (in), 6 O (out), 7 GND (power) hidden to GND, 14 VCC (power) hidden to VCC
part C pins: 7 GND (power) hidden to GND, 8 O (out), 9 I0 (in), 10 I1 (in), 14 VCC (power) hidden to VCC
part D pins: 7 GND (power) hidden to GND, 11 O (out), 12 I0 (in), 13 I1 (in), 14 VCC (power) hidden to VCC
1 alternate drawing of the same symbol

## 74LS33
designator U?
part A pins: 1 O (out), 2 I0 (in), 3 I1 (in), 7 GND (power) hidden to GND, 14 VCC (power) hidden to VCC
part B pins: 4 O (out), 5 I0 (in), 6 I1 (in), 7 GND (power) hidden to GND, 14 VCC (power) hidden to VCC
part C pins: 7 GND (power) hidden to GND, 8 I0 (in), 9 I1 (in), 10 O (out), 14 VCC (power) hidden to VCC
part D pins: 7 GND (power) hidden to GND, 11 I0 (in), 12 I1 (in), 13 O (out), 14 VCC (power) hidden to VCC
1 alternate drawing of the same symbol

## 74LS42
designator U?
pins: 1 0 (out), 2 1 (out), 3 2 (out), 4 3 (out), 5 4 (out), 6 5 (out), 7 6 (out), 8 GND (power) hidden to GND, 9 7 (out), 10 8 (out), 11 9 (out), 12 D (in), 13 C (in), 14 B (in), 15 A (in), 16 VCC (power) hidden to VCC

## 74LS48
designator U?
pins: 1 2 (in), 2 4 (in), 3 LT (in), 4 BI/RBO (in), 5 RBI (in), 6 8 (in), 7 1 (in), 8 GND (power) hidden to GND, 9 E (out), 10 D (out), 11 C (out), 12 B (out), 13 A (out), 14 G (out), 15 F (out), 16 VCC (power) hidden to VCC

## 74LS49
designator U?
pins: 1 2 (in), 2 4 (in), 3 BI (in), 4 8 (in), 5 1 (in), 6 E (oc), 7 GND (power) hidden to GND, 8 D (oc), 9 C (oc), 10 B (oc), 11 A (oc), 12 G (oc), 13 F (oc), 14 VCC (power) hidden to VCC

## 74LS51
designator U?
pins: 1 1A (in), 2 2A (in), 3 2B (in), 4 2C (in), 5 2D (in), 6 2Y (out), 7 GND (power) hidden to GND, 8 1Y (out), 9 1D (in), 10 1E (in), 11 1F (in), 12 1B (in), 13 1C (in), 14 VCC (power) hidden to VCC

## 74LS54
designator U?
pins: 1 A (in), 2 B (in), 3 C (in), 4 D (in), 5 E (in), 6 Y (out), 7 GND (power) hidden to GND, 9 F (in), 10 G (in), 11 H (in), 12 I (in), 13 J (in), 14 VCC (power) hidden to VCC

## 74LS55
designator U?
pins: 1 A (in), 2 B (in), 3 C (in), 4 D (in), 7 GND (power) hidden to GND, 8 Y (out), 10 E (in), 11 F (in), 12 G (in), 13 H (in), 14 VCC (power) hidden to VCC

## 74LS56
designator U?
pins: 1 CLKB (in), 2 VCC (power) hidden to VCC, 3 QA (out), 4 GND (power) hidden to GND, 5 CLKA (in), 6 CLR (in), 7 QB (out), 8 QC (out)

## 74LS63
designator U?
part A pins: 1 I (in), 2 O (out), 7 GND (power) hidden to GND, 14 VCC (power) hidden to VCC
part B pins: 3 O (out), 4 I (in), 7 GND (power) hidden to GND, 14 VCC (power) hidden to VCC
part C pins: 5 I (in), 6 O (out), 7 GND (power) hidden to GND, 14 VCC (power) hidden to VCC
part D pins: 7 GND (power) hidden to GND, 8 O (out), 9 I (in), 14 VCC (power) hidden to VCC
part E pins: 7 GND (power) hidden to GND, 10 I (in), 11 O (out), 14 VCC (power) hidden to VCC
part F pins: 7 GND (power) hidden to GND, 12 O (out), 13 I (in), 14 VCC (power) hidden to VCC
1 alternate drawing of the same symbol

## 74LS68
designator U?
pins: 1 1CLKA (in), 2 1QB (out), 3 1QD (out), 4 1CLR (in), 5 2QC (out), 7 2QA (out), 8 GND (power) hidden to GND, 9 2CLK (in), 10 2QB (out), 11 2CLR (in), 12 2QD (out), 13 1QC (out), 14 1QA (out), 15 1CLKB (in), 16 VCC (power) hidden to VCC

## 74LS73
designator U?
part A pins: 1 CLK (in), 2 CL (in), 3 K (in), 4 VCC (power) hidden to VCC, 11 GND (power) hidden to GND, 12 Q (out), 13 ~{Q} (out), 14 J (in)
part B pins: 4 VCC (power) hidden to VCC, 5 CLK (in), 6 CL (in), 7 J (in), 8 ~{Q} (out), 9 Q (out), 10 K (in), 11 GND (power) hidden to GND

## 74LS74
designator U?
part A pins: 1 CL (in), 2 D (in), 3 CLK (in), 4 PR (in), 5 Q (out), 6 ~{Q} (out), 7 GND (power) hidden to GND, 14 VCC (power) hidden to VCC
part B pins: 7 GND (power) hidden to GND, 8 ~{Q} (out), 9 Q (out), 10 PR (in), 11 CLK (in), 12 D (in), 13 CL (in), 14 VCC (power) hidden to VCC

## 74LS75
designator U?
pins: 1 ~{Q1} (out), 2 D1 (in), 3 D2 (in), 4 C34 (in), 5 VCC (power) hidden to VCC, 6 D3 (in), 7 D4 (in), 8 ~{Q4} (out), 9 Q4 (out), 10 Q3 (out), 11 ~{Q3} (out), 12 GND (power) hidden to GND, 13 C12 (in), 14 ~{Q2} (out), 15 Q2 (out), 16 Q1 (out)

## 74LS76
designator U?
part A pins: 1 CLK (in), 2 PR (in), 3 CL (in), 4 J (in), 5 VCC (power) hidden to VCC, 13 GND (power) hidden to GND, 14 ~{Q} (out), 15 Q (out), 16 K (in)
part B pins: 5 VCC (power) hidden to VCC, 6 CLK (in), 7 PR (in), 8 CL (in), 9 J (in), 10 ~{Q} (out), 11 Q (out), 12 K (in), 13 GND (power) hidden to GND

## 74LS77
designator U?
pins: 1 D1 (in), 2 D2 (in), 3 C34 (in), 4 VCC (power) hidden to VCC, 5 D3 (in), 6 D4 (in), 8 Q4 (out), 9 Q3 (out), 11 GND (power) hidden to GND, 12 C12 (in), 13 Q2 (out), 14 Q1 (out)

## 74LS78
designator U?
pins: 1 CLK (in), 2 PR1 (in), 3 J1 (in), 4 VCC (power) hidden to VCC, 5 CLR (in), 6 PR2 (in), 7 K2 (in), 8 Q2 (out), 9 ~{Q2} (out), 10 J2 (in), 11 GND (power) hidden to GND, 12 ~{Q1} (out), 13 Q1 (out), 14 K1 (in)

## 74LS83
designator U?
pins: 1 A4 (in), 2 S3 (out), 3 A3 (in), 4 B3 (in), 5 VCC (power) hidden to VCC, 6 S2 (out), 7 B2 (in), 8 A2 (in), 9 S1 (out), 10 A1 (in), 11 B1 (in), 12 GND (power) hidden to GND, 13 C0 (in), 14 C4 (out), 15 S4 (out), 16 B4 (in)

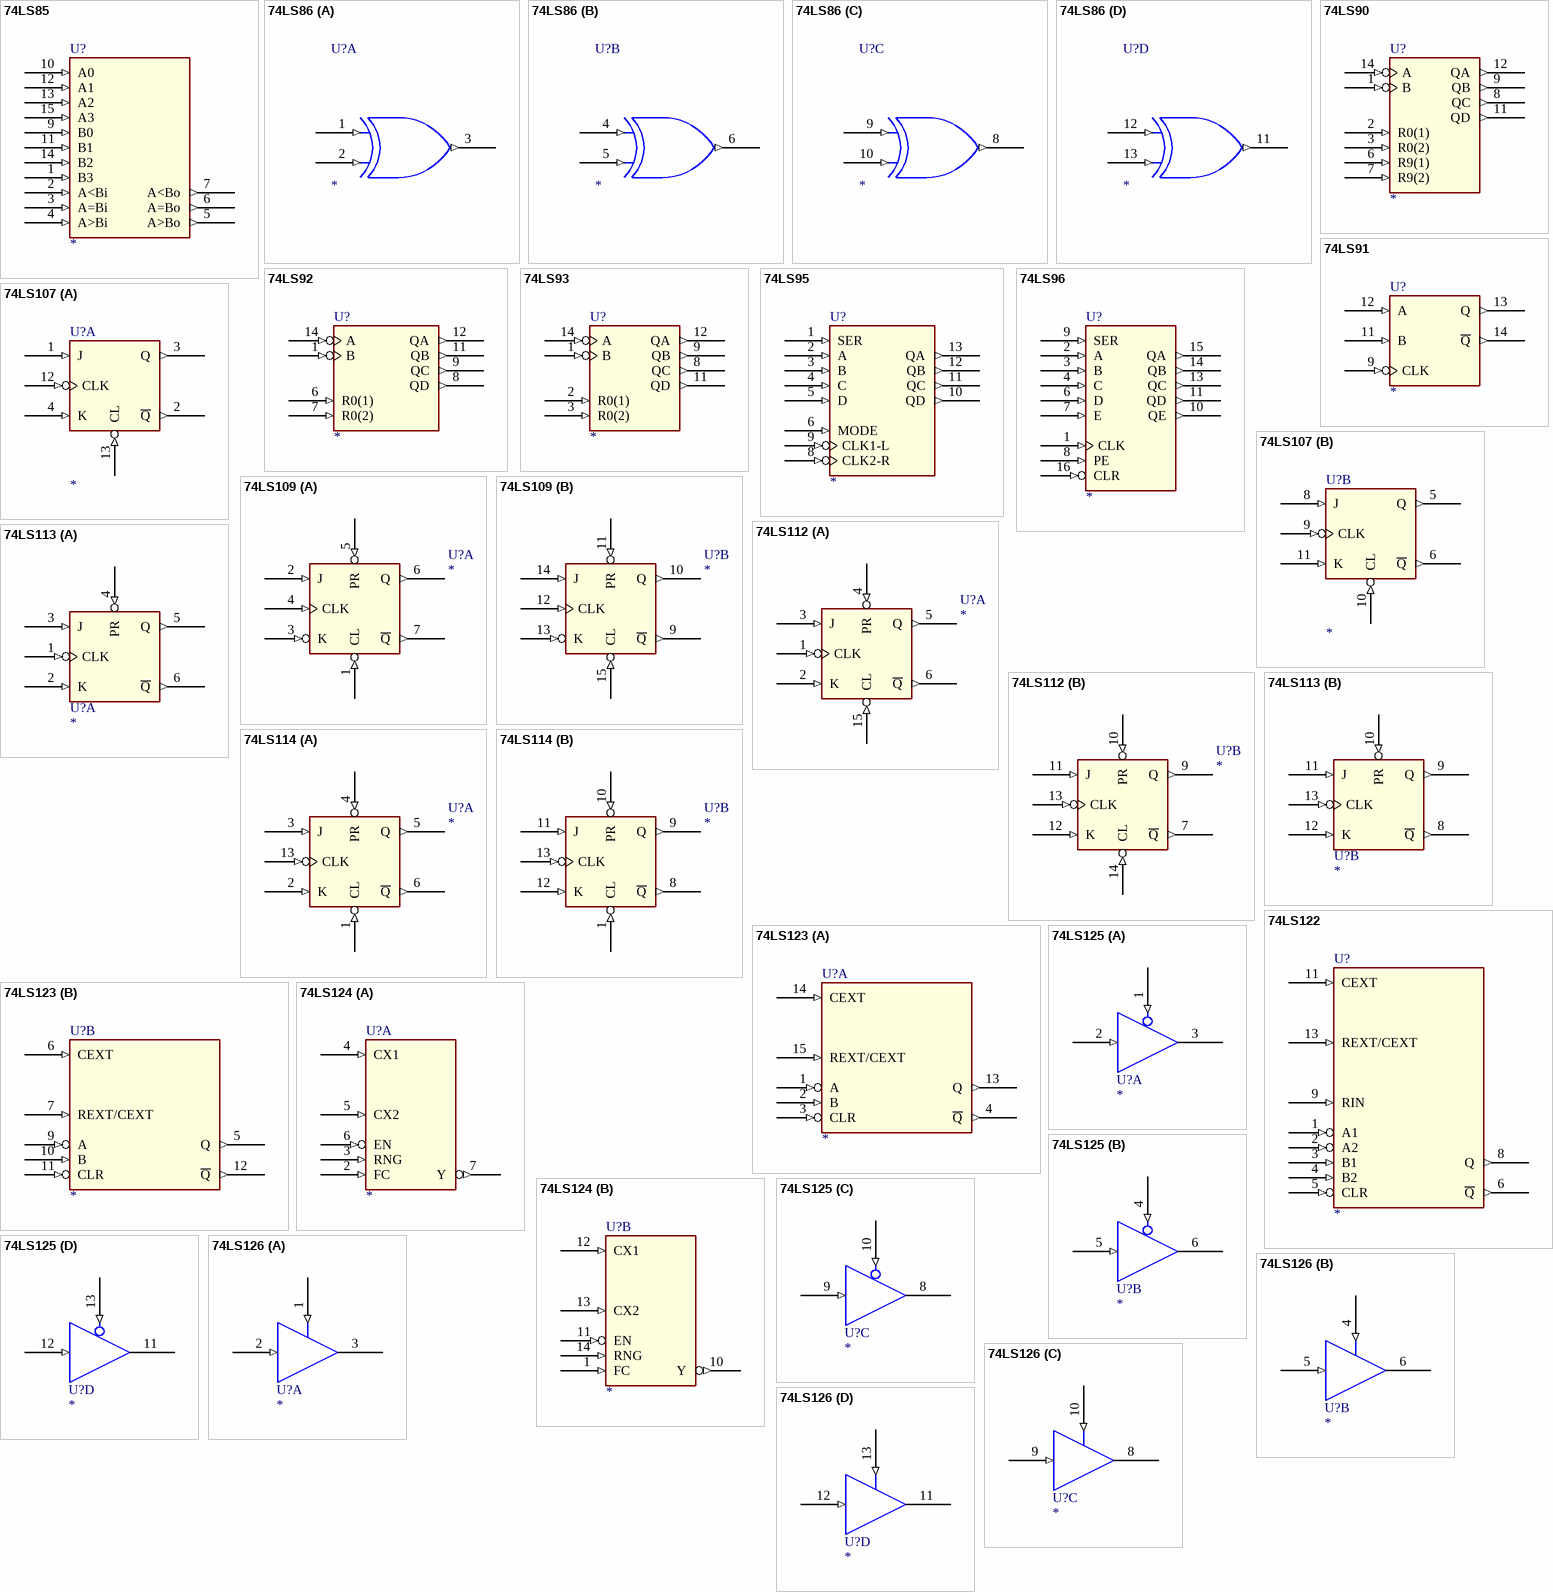
[diagram p15: symbols 74LS85 to 74LS126]

## 74LS85
designator U?
pins: 1 B3 (in), 2 A<Bi (in), 3 A=Bi (in), 4 A>Bi (in), 5 A>Bo (out), 6 A=Bo (out), 7 A<Bo (out), 8 GND (power) hidden to GND, 9 B0 (in), 10 A0 (in), 11 B1 (in), 12 A1 (in), 13 A2 (in), 14 B2 (in), 15 A3 (in), 16 VCC (power) hidden to VCC

## 74LS86
designator U?
part A pins: 1 I0 (in), 2 I1 (in), 3 O (out), 7 GND (power) hidden to GND, 14 VCC (power) hidden to VCC
part B pins: 4 I0 (in), 5 I1 (in), 6 O (out), 7 GND (power) hidden to GND, 14 VCC (power) hidden to VCC
part C pins: 7 GND (power) hidden to GND, 8 O (out), 9 I0 (in), 10 I1 (in), 14 VCC (power) hidden to VCC
part D pins: 7 GND (power) hidden to GND, 11 O (out), 12 I0 (in), 13 I1 (in), 14 VCC (power) hidden to VCC

## 74LS90
designator U?
pins: 1 B (in), 2 R0(1) (in), 3 R0(2) (in), 5 VCC (power) hidden to VCC, 6 R9(1) (in), 7 R9(2) (in), 8 QC (out), 9 QB (out), 10 GND (power) hidden to GND, 11 QD (out), 12 QA (out), 14 A (in)

## 74LS91
designator U?
pins: 5 VCC (power) hidden to VCC, 9 CLK (in), 10 GND (power) hidden to GND, 11 B (in), 12 A (in), 13 Q (out), 14 ~{Q} (out)